# Altium schematic symbol library LimeMicroAltiumLib.SchLib: 659 symbols (part 11 of 22)
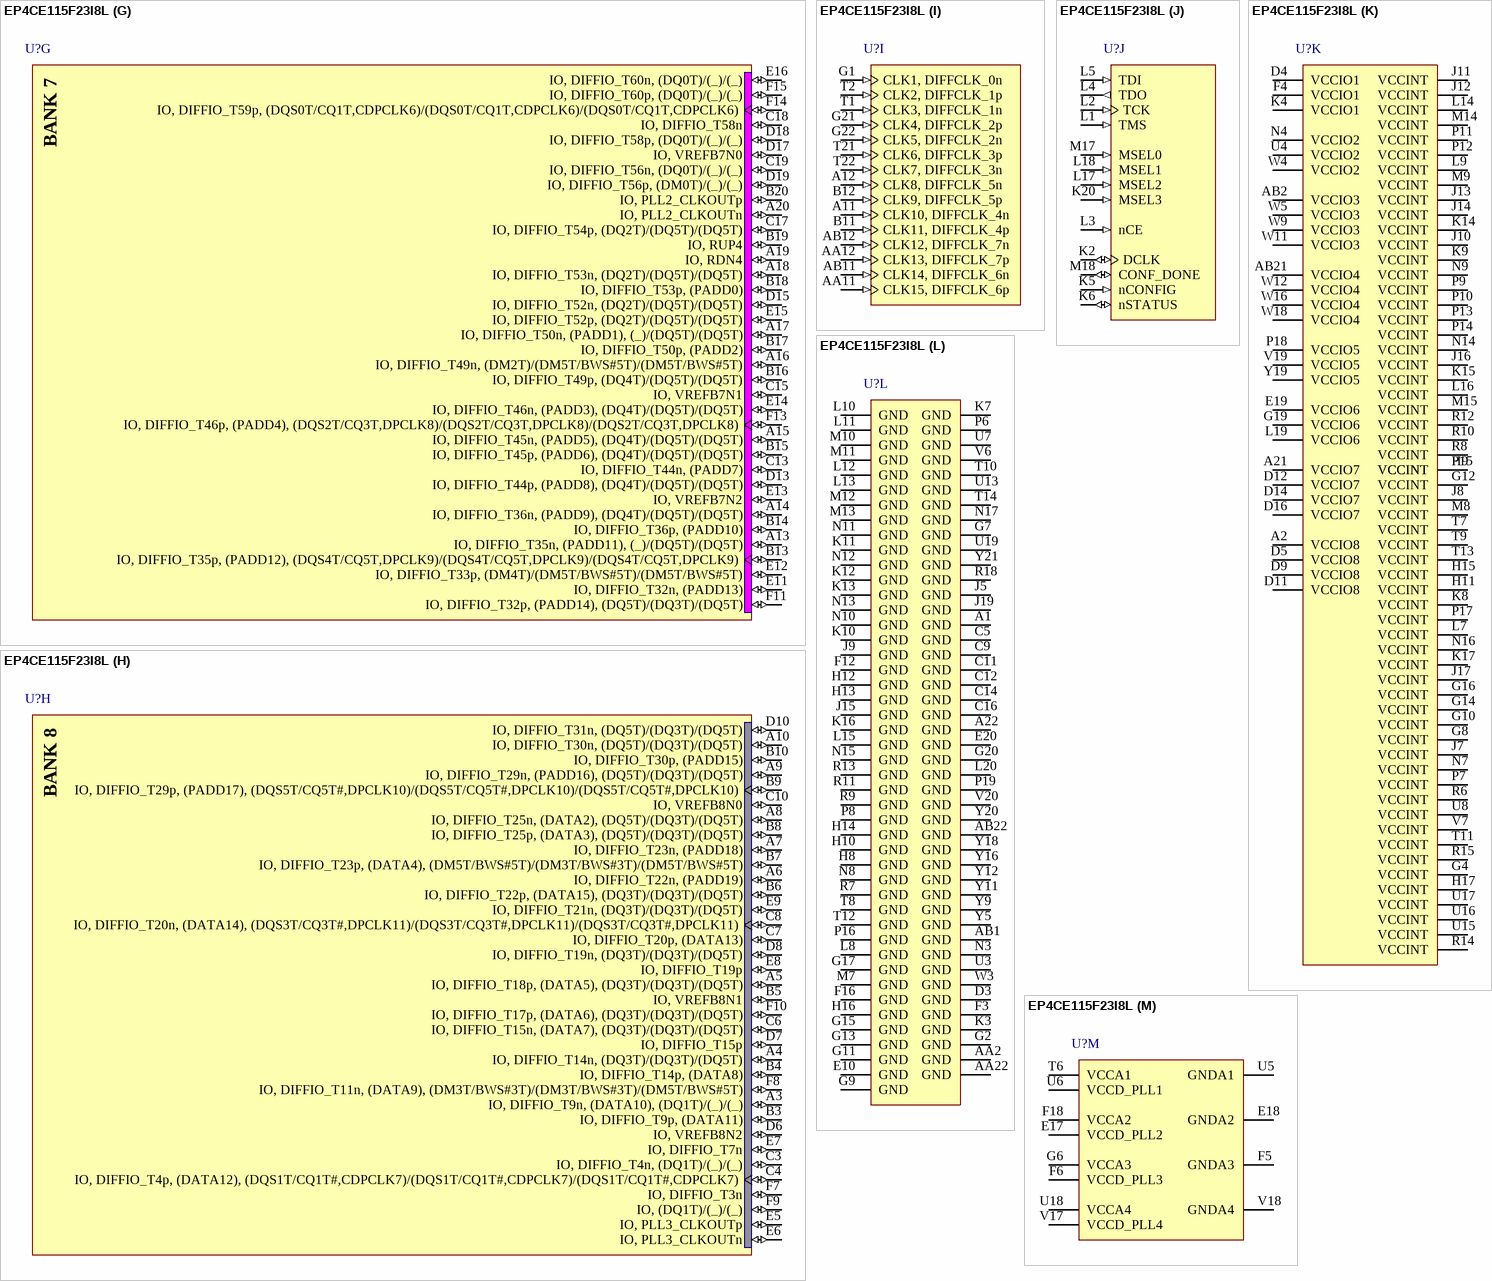
[diagram p88: symbol EP4CE115F23I8L]

## EP4CE115F23I8L
designator U?
Cyclone IV Family FPGA, 1V Core, 280 I/O Pins, 4 PLLs, 484-Pin FBGA, Speed Grade 8, Industrial Grade; Manufacturer: Altera; DatasheetVersion: ver1.6, Nov-2011; PackageVersion: ver1.0, Jun-2011; PackageReference: FBGA484_A-240; PackageDescription: 484-Pin FineLine Ball Grid Array (FBGA) - Wire Bond - A:2.40; Code_JEDEC: MS-034-AAJ-1; ComponentLink1Description: Manufacturer URL; ComponentLink1URL: http://www.altera.com/; ComponentLink2Description: Handbook; ComponentLink2URL: http://www.altera.com/literature/hb/cyclone-iv/cyclone4-handbook.pdf; ComponentLink3Description: Pinout; ComponentLink3URL: http://www.altera.com/literature/lit-dp.jsp?category=cyc%204&showspreadsheet=y; ComponentLink4Description: Package Specification; ComponentLink4URL: http://www.altera.com/devicepackaging/04R00247-02.pdf
footprint ALTR-FBGA484_A-200 (BGA, 484-Balls, Body 23x23mm, Pitch 1mm)
part A pins: B1 IO, DIFFIO_L2n, (DQ2L)/(DQ1L)/(DQ1L) (io), B2 IO, DIFFIO_L2p, (DQ2L)/(DQ1L)/(DQ1L) (io), C1 IO, DIFFIO_L4n, (DQ2L)/(DQ1L)/(DQ1L) (io), C2 IO, DIFFIO_L4p, (DQS2L/CQ3L,CDPCLK0)/(DQS2L/CQ3L,CDPCLK0)/(DQS2L/CQ3L,CDPCLK0) (io), D1 IO, DIFFIO_L5n, (DATA1,ASDO) (io), D2 IO, DIFFIO_L5p, (DQ2L)/(DQ1L)/(DQ1L) (io), E1 IO, DIFFIO_L8n, (_)/(DQ1L)/(DQ1L) (io), E2 IO, DIFFIO_L8p, (FLASH_nCE,nCSO) (io), E3 IO, DIFFIO_L3n, (DQ2L)/(DQ1L)/(DQ1L) (io), E4 IO, DIFFIO_L3p, (nRESET), (DQ2L)/(DQ1L)/(DQ1L) (io), F1 IO, DIFFIO_L9n, (DQ0L)/(DQ1L)/(DQ1L) (io), F2 IO, DIFFIO_L9p, (DM2L)/(DM1L/BWS#1L)/(DM1L/BWS#1L) (io), G3 IO, DIFFIO_L1n, (DQ2L)/(DQ1L)/(DQ1L) (io), G5 IO, VREFB1N0 (io), H1 IO, DIFFIO_L13n (io), H2 IO, DIFFIO_L13p (io), H3 IO, DIFFIO_L7n (io), H4 IO (io), H5 IO, VREFB1N1 (io), H6 IO, DIFFIO_L6p, (DQ2L)/(DQ1L)/(DQ1L) (io), H7 IO, DIFFIO_L1p (io), J1 IO, DIFFIO_L23n, (DQ0L)/(DQ1L)/(DQ1L) (io), J2 IO, DIFFIO_L23p (io), J3 IO, VREFB1N2 (io), J4 IO, DIFFIO_L12p, (DQS0L/CQ1L,DPCLK0)/(DQS0L/CQ1L,DPCLK0)/(DQS0L/CQ1L,DPCLK0) (io), J6 IO, DIFFIO_L6n (io), K1 IO, (DATA0) (io)
part B pins: AA1 IO, DIFFIO_L40n (io), L6 IO, DIFFIO_L25p, (DQ0L)/(DQ1L)/(DQ1L) (io), M1 IO, DIFFIO_L27n (io), M2 IO, DIFFIO_L27p, (DM0L)/(DM1L/BWS#1L)/(DM1L/BWS#1L) (io), M3 IO, DIFFIO_L28n, (DQ1L)/(DQ3L)/(DQ1L) (io), M4 IO, DIFFIO_L28p, (DQ1L)/(DQ3L)/(DQ1L) (io), M5 IO, VREFB2N0 (io), M6 IO, DIFFIO_L25n, (_)/(DQ1L)/(DQ1L) (io), N1 IO, DIFFIO_L29n (io), N2 IO, DIFFIO_L29p, (DQ1L)/(DQ3L)/(DQ1L) (io), N5 IO, DIFFIO_L32n, (DQ1L)/(DQ3L)/(DQ1L) (io), N6 IO, DIFFIO_L36n (io), P1 IO, DIFFIO_L30n, (DQ1L)/(DQ3L)/(DQ1L) (io), P2 IO, DIFFIO_L30p (io), P3 IO, DIFFIO_L33n (io), P4 IO, DIFFIO_L33p, (DQS1L/CQ1L#,DPCLK1)/(DQS1L/CQ1L#,DPCLK1)/(DQS1L/CQ1L#,DPCLK1) (io), P5 IO, DIFFIO_L36p, (DQ3L)/(DQ3L)/(DQ1L) (io), R1 IO, DIFFIO_L31n (io), R2 IO, DIFFIO_L31p, (DQ1L)/(DQ3L)/(DQ1L) (io), R3 IO, DIFFIO_L37n, (DQ3L)/(DQ3L)/(DQ1L) (io), R4 IO, DIFFIO_L37p, (DQ3L)/(DQ3L)/(DQ1L) (io), R5 IO, VREFB2N2 (io), T3 IO, VREFB2N1 (io), T4 IO, DIFFIO_L48p, (DQS3L/CQ3L#,CDPCLK1)/(DQS3L/CQ3L#,CDPCLK1)/(DQS3L/CQ3L#,CDPCLK1) (io), T5 IO, DIFFIO_L48n, (DM3L/BWS#3L)/(DM3L/BWS#3L)/(DM1L/BWS#1L) (io), U1 IO, DIFFIO_L34n, (DM1L/BWS#1L)/(DM3L/BWS#3L)/(DM1L/BWS#1L) (io), U2 IO, DIFFIO_L34p, (DQ1L)/(DQ3L)/(DQ1L) (io), V1 IO, DIFFIO_L35n (io), V2 IO, DIFFIO_L35p, (DQ3L)/(DQ3L)/(DQ1L) (io), V3 IO, RDN1 (io), V4 IO, RUP1 (io), W1 IO, DIFFIO_L38n (io), W2 IO, DIFFIO_L38p, (DQ3L)/(DQ3L)/(DQ1L) (io), Y1 IO, DIFFIO_L39n (io), Y2 IO, DIFFIO_L39p, (DQ3L)/(DQ3L)/(DQ1L) (io)
part C pins: AA3 IO, PLL_1CLKOUTp (io), AA4 IO, (DQ1B)/(_)/(_) (io), AA5 IO, DIFFIO_B5p (io), AA6 IO, DIFFIO_B7n, (DQ1B)/(_)/(_) (io), AA7 IO, DIFFIO_B14p (io), AA8 IO, DIFFIO_B17p, (DQ5B)/(DQ3B)/(DQ5B) (io), AA9 IO, DIFFIO_B18p, (DQ5B)/(DQ3B)/(DQ5B) (io), AA10 IO, DIFFIO_B24p (io), AB3 IO, PLL_1CLKOUTn (io), AB4 IO, VREFB3N2 (io), AB5 IO, DIFFIO_B8n (io), AB6 IO, DIFFIO_B8p, (DM3B/BWS#3B)/(DM3B/BWS#3B)/(DM5B/BWS#5B) (io), AB7 IO, DIFFIO_B14n, (DM5B/BWS#5B)/(DM3B/BWS#3B)/(DM5B/BWS#5B) (io), AB8 IO, DIFFIO_B17n (io), AB9 IO, DIFFIO_B18n, (DQS5B/CQ5B#,DPCLK3)/(DQS5B/CQ5B#,DPCLK3)/(DQS5B/CQ5B#,DPCLK3) (io), AB10 IO, DIFFIO_B24n (io), U9 IO, DIFFIO_B12n, (DQ3B)/(DQ3B)/(DQ5B) (io), U10 IO, DIFFIO_B15n, (DQ5B)/(DQ3B)/(DQ5B) (io), U11 IO, VREFB3N0 (io), V5 IO, DIFFIO_B1n, (DM1B)/(_)/(_) (io), V8 IO, DIFFIO_B13p (io), V9 IO, VREFB3N1 (io), V10 IO, DIFFIO_B15p, (DQS3B/CQ3B#,DPCLK2)/(DQS3B/CQ3B#,DPCLK2)/(DQS3B/CQ3B#,DPCLK2) (io), V11 IO (io), W6 IO, DIFFIO_B4p, (DQ1B)/(_)/(_) (io), W7 IO, DIFFIO_B9p, (DQ3B)/(DQ3B)/(DQ5B) (io), W8 IO, DIFFIO_B13n, (DQ3B)/(DQ3B)/(DQ5B) (io), W10 IO, DIFFIO_B23p (io), Y3 IO, DIFFIO_B3n, (DQ1B)/(_)/(_) (io), Y4 IO, DIFFIO_B3p (io), Y6 IO, (DQS1B/CQ1B#,CDPCLK2)/(DQS1B/CQ1B#,CDPCLK2)/(DQS1B/CQ1B#,CDPCLK2) (io), Y7 IO, DIFFIO_B9n, (DQ3B)/(DQ3B)/(DQ5B) (io), Y8 IO, (DQ5B)/(DQ3B)/(DQ5B) (io), Y10 IO, DIFFIO_B23n (io)
part D pins: AA13 IO, DIFFIO_B32p, (_)/(DQ5B)/(DQ5B) (io), AA14 IO, DIFFIO_B35p (io), AA15 IO, DIFFIO_B37p, (DQ4B)/(DQ5B)/(DQ5B) (io), AA16 IO, DIFFIO_B40p, (DQ2B)/(DQ5B)/(DQ5B) (io), AA17 IO, DIFFIO_B47p, (DQ0B)/(_)/(_) (io), AA18 IO, VREFB4N1 (io), AA19 IO, RUP2 (io), AA20 IO, DIFFIO_B49p (io), AB13 IO, DIFFIO_B32n, (DQ4B)/(DQ5B)/(DQ5B) (io), AB14 IO, DIFFIO_B35n, (DQ4B)/(DQ5B)/(DQ5B) (io), AB15 IO, DIFFIO_B37n, (DQ4B)/(DQ5B)/(DQ5B) (io), AB16 IO, DIFFIO_B40n, (DQ2B)/(DQ5B)/(DQ5B) (io), AB17 IO, DIFFIO_B47n (io), AB18 IO, (DQ0B)/(_)/(_) (io), AB19 IO, RDN2 (io), AB20 IO, DIFFIO_B49n, (DQ0B)/(_)/(_) (io), R16 IO, PLL4_CLKOUTn (io), T15 IO, DIFFIO_B46n, (DQ0B)/(_)/(_) (io), T16 IO, PLL4_CLKOUTp (io), U12 IO, DIFFIO_B38p (io), U14 IO, DIFFIO_B44p, (DQ2B)/(DQ5B)/(DQ5B) (io), V12 IO, VREFB4N2 (io), V13 IO, DIFFIO_B41p, (DQS2B/CQ3B,DPCLK5)/(DQS2B/CQ3B,DPCLK5)/(DQS2B/CQ3B,DPCLK5) (io), V14 IO, DIFFIO_B43p (io), V15 IO, DIFFIO_B44n (io), V16 IO, VREFB4N0 (io), W13 IO, DIFFIO_B36p, (DQ4B)/(DQ5B)/(DQ5B) (io), W14 IO, DIFFIO_B41n (io), W15 IO, DIFFIO_B45p, (DQ2B)/(DQ5B)/(DQ5B) (io), W17 IO, DIFFIO_B48p, (DQ0B)/(_)/(_) (io), Y13 IO, DIFFIO_B36n, (DQS4B/CQ5B,DPCLK4)/(DQS4B/CQ5B,DPCLK4)/(DQS4B/CQ5B,DPCLK4) (io), Y14 IO, DIFFIO_B39p (io), Y15 IO, DIFFIO_B39n, (DQ2B)/(DQ5B)/(DQ5B) (io), Y17 IO, DIFFIO_B48n, (DQS0B/CQ1B,CDPCLK3)/(DQS0B/CQ1B,CDPCLK3)/(DQS0B/CQ1B,CDPCLK3) (io)
part E pins: AA21 IO, DIFFIO_R51p (io), M16 IO, DIFFIO_R48p (io), M19 IO, DIFFIO_R27p, (_)/(DQ1R)/(DQ1R) (io), M20 IO, DIFFIO_R27n, (DM0R)/(DM1R/BWS#1R)/(DM1R/BWS#1R) (io), M21 IO, DIFFIO_R28p (io), M22 IO, DIFFIO_R28n, (DQ1R)/(DQ3R)/(DQ1R) (io), N18 IO, DIFFIO_R30p, (DQS1R/CQ1R#,DPCLK6)/(DQS1R/CQ1R#,DPCLK6)/(DQS1R/CQ1R#,DPCLK6) (io), N19 IO, VREFB5N0 (io), N20 IO, DIFFIO_R33n (io), N21 IO, DIFFIO_R29p, (DEV_CLRn) (io), N22 IO, DIFFIO_R29n, (DEV_OE) (io), P20 IO, VREFB5N1 (io), P21 IO, DIFFIO_R36p (io), P22 IO, DIFFIO_R36n (io), R17 IO, DIFFIO_R49p (io), R19 IO, DIFFIO_R40p (io), R20 IO, DIFFIO_R42n, (DM1R/BWS#1R)/(DM3R/BWS#3R)/(DM1R/BWS#1R) (io), R21 IO, DIFFIO_R38p (io), R22 IO, DIFFIO_R38n, (DQ1R)/(DQ3R)/(DQ1R) (io), T17 IO, RUP3 (io), T18 IO, RDN3 (io), T19 IO, DIFFIO_R45p, (DQ3R)/(DQ3R)/(DQ1R) (io), T20 IO, DIFFIO_R45n, (DQ3R)/(DQ3R)/(DQ1R) (io), U20 IO, DIFFIO_R48n, (DQ3R)/(DQ3R)/(DQ1R) (io), U21 IO, DIFFIO_R41p (io), U22 IO, DIFFIO_R41n, (DQ1R)/(DQ3R)/(DQ1R) (io), V21 IO, DIFFIO_R43p (io), V22 IO, DIFFIO_R43n, (DQ3R)/(DQ3R)/(DQ1R) (io), W19 IO, VREFB5N2 (io), W20 IO, DIFFIO_R50n, (DQS3R/CQ3R#,CDPCLK4)/(DQS3R/CQ3R#,CDPCLK4)/(DQS3R/CQ3R#,CDPCLK4) (io), W21 IO, DIFFIO_R46p (io), W22 IO, DIFFIO_R46n, (DQ3R)/(DQ3R)/(DQ1R) (io), Y22 IO, DIFFIO_R49n, (DQ3R)/(DQ3R)/(DQ1R) (io)
part F pins: B21 IO, DIFFIO_R9p, (PADD21), (DQ2R)/(DQ1R)/(DQ1R) (io), B22 IO, DIFFIO_R9n, (PADD22) (io), C20 IO, DIFFIO_R8n, (PADD20), (DQS2R/CQ3R,CDPCLK5)/(DQS2R/CQ3R,CDPCLK5)/(DQS2R/CQ3R,CDPCLK5) (io), C21 IO, DIFFIO_R10p, (DQ2R)/(DQ1R)/(DQ1R) (io), C22 IO, DIFFIO_R10n (io), D20 IO, VREFB6N0 (io), D21 IO, DIFFIO_R14p (io), D22 IO, DIFFIO_R14n, (DQ2R)/(DQ1R)/(DQ1R) (io), E21 IO, DIFFIO_R15p, (nOE), (DQ2R)/(DQ1R)/(DQ1R) (io), E22 IO, DIFFIO_R15n, (nWE), (DQ2R)/(DQ1R)/(DQ1R) (io), F17 IO, DIFFIO_R2n (io), F19 IO, DIFFIO_R13p (io), F20 IO, DIFFIO_R13n, (nAVD), (DQ2R)/(DQ1R)/(DQ1R) (io), F21 IO, DIFFIO_R18p (io), F22 IO, DIFFIO_R18n, (DQ0R)/(DQ1R)/(DQ1R) (io), G18 IO, DIFFIO_R12n, (PADD23), (DQ2R)/(DQ1R)/(DQ1R) (io), H18 IO, VREFB6N1 (io), H19 IO, DIFFIO_R16p, (_)/(DQ1R)/(DQ1R) (io), H20 IO, DIFFIO_R16n (io), H21 IO, DIFFIO_R21p, (DQ0R)/(DQ1R)/(DQ1R) (io), H22 IO, DIFFIO_R21n, (DQ0R)/(DQ1R)/(DQ1R) (io), J18 IO, DIFFIO_R20p (io), J20 IO, DIFFIO_R17n, (DQ0R)/(DQ1R)/(DQ1R) (io), J21 IO, DIFFIO_R22p (io), J22 IO, DIFFIO_R22n, (DQS0R/CQ1R,DPCLK7)/(DQS0R/CQ1R,DPCLK7)/(DQS0R/CQ1R,DPCLK7) (io), K18 IO, DIFFIO_R20n, (DQ0R)/(DQ1R)/(DQ1R) (io), K19 IO, VREFB6N2 (io), K21 IO, DIFFIO_R23p, (CLKUSR) (io), K22 IO, DIFFIO_R23n, (nCEO) (io), L21 IO, DIFFIO_R24p, (CRC_ERROR) (io), L22 IO, DIFFIO_R24n, (INIT_DONE) (io)
part G pins: A13 IO, DIFFIO_T35n, (PADD11), (_)/(DQ5T)/(DQ5T) (io), A14 IO, DIFFIO_T36n, (PADD9), (DQ4T)/(DQ5T)/(DQ5T) (io), A15 IO, DIFFIO_T45n, (PADD5), (DQ4T)/(DQ5T)/(DQ5T) (io), A16 IO, DIFFIO_T49n, (DM2T)/(DM5T/BWS#5T)/(DM5T/BWS#5T) (io), A17 IO, DIFFIO_T50n, (PADD1), (_)/(DQ5T)/(DQ5T) (io), A18 IO, DIFFIO_T53n, (DQ2T)/(DQ5T)/(DQ5T) (io), A19 IO, RDN4 (io), A20 IO, PLL2_CLKOUTn (io), B13 IO, DIFFIO_T35p, (PADD12), (DQS4T/CQ5T,DPCLK9)/(DQS4T/CQ5T,DPCLK9)/(DQS4T/CQ5T,DPCLK9) (io), B14 IO, DIFFIO_T36p, (PADD10) (io), B15 IO, DIFFIO_T45p, (PADD6), (DQ4T)/(DQ5T)/(DQ5T) (io), B16 IO, DIFFIO_T49p, (DQ4T)/(DQ5T)/(DQ5T) (io), B17 IO, DIFFIO_T50p, (PADD2) (io), B18 IO, DIFFIO_T53p, (PADD0) (io), B19 IO, RUP4 (io), B20 IO, PLL2_CLKOUTp (io), C13 IO, DIFFIO_T44n, (PADD7) (io), C15 IO, VREFB7N1 (io), C17 IO, DIFFIO_T54p, (DQ2T)/(DQ5T)/(DQ5T) (io), C18 IO, DIFFIO_T58n (io), C19 IO, DIFFIO_T56n, (DQ0T)/(_)/(_) (io), D13 IO, DIFFIO_T44p, (PADD8), (DQ4T)/(DQ5T)/(DQ5T) (io), D15 IO, DIFFIO_T52n, (DQ2T)/(DQ5T)/(DQ5T) (io), D17 IO, VREFB7N0 (io), D18 IO, DIFFIO_T58p, (DQ0T)/(_)/(_) (io), D19 IO, DIFFIO_T56p, (DM0T)/(_)/(_) (io), E11 IO, DIFFIO_T32n, (PADD13) (io), E12 IO, DIFFIO_T33p, (DM4T)/(DM5T/BWS#5T)/(DM5T/BWS#5T) (io), E13 IO, VREFB7N2 (io), E14 IO, DIFFIO_T46n, (PADD3), (DQ4T)/(DQ5T)/(DQ5T) (io), E15 IO, DIFFIO_T52p, (DQ2T)/(DQ5T)/(DQ5T) (io), E16 IO, DIFFIO_T60n, (DQ0T)/(_)/(_) (io), F11 IO, DIFFIO_T32p, (PADD14), (DQ5T)/(DQ3T)/(DQ5T) (io), F13 IO, DIFFIO_T46p, (PADD4), (DQS2T/CQ3T,DPCLK8)/(DQS2T/CQ3T,DPCLK8)/(DQS2T/CQ3T,DPCLK8) (io), F14 IO, DIFFIO_T59p, (DQS0T/CQ1T,CDPCLK6)/(DQS0T/CQ1T,CDPCLK6)/(DQS0T/CQ1T,CDPCLK6) (io), F15 IO, DIFFIO_T60p, (DQ0T)/(_)/(_) (io)
part H pins: A3 IO, DIFFIO_T9n, (DATA10), (DQ1T)/(_)/(_) (io), A4 IO, DIFFIO_T14n, (DQ3T)/(DQ3T)/(DQ5T) (io), A5 IO, DIFFIO_T18p, (DATA5), (DQ3T)/(DQ3T)/(DQ5T) (io), A6 IO, DIFFIO_T22n, (PADD19) (io), A7 IO, DIFFIO_T23n, (PADD18) (io), A8 IO, DIFFIO_T25n, (DATA2), (DQ5T)/(DQ3T)/(DQ5T) (io), A9 IO, DIFFIO_T29n, (PADD16), (DQ5T)/(DQ3T)/(DQ5T) (io), A10 IO, DIFFIO_T30n, (DQ5T)/(DQ3T)/(DQ5T) (io), B3 IO, DIFFIO_T9p, (DATA11) (io), B4 IO, DIFFIO_T14p, (DATA8) (io), B5 IO, VREFB8N1 (io), B6 IO, DIFFIO_T22p, (DATA15), (DQ3T)/(DQ3T)/(DQ5T) (io), B7 IO, DIFFIO_T23p, (DATA4), (DM5T/BWS#5T)/(DM3T/BWS#3T)/(DM5T/BWS#5T) (io), B8 IO, DIFFIO_T25p, (DATA3), (DQ5T)/(DQ3T)/(DQ5T) (io), B9 IO, DIFFIO_T29p, (PADD17), (DQS5T/CQ5T#,DPCLK10)/(DQS5T/CQ5T#,DPCLK10)/(DQS5T/CQ5T#,DPCLK10) (io), B10 IO, DIFFIO_T30p, (PADD15) (io), C3 IO, DIFFIO_T4n, (DQ1T)/(_)/(_) (io), C4 IO, DIFFIO_T4p, (DATA12), (DQS1T/CQ1T#,CDPCLK7)/(DQS1T/CQ1T#,CDPCLK7)/(DQS1T/CQ1T#,CDPCLK7) (io), C6 IO, DIFFIO_T15n, (DATA7), (DQ3T)/(DQ3T)/(DQ5T) (io), C7 IO, DIFFIO_T20p, (DATA13) (io), C8 IO, DIFFIO_T20n, (DATA14), (DQS3T/CQ3T#,DPCLK11)/(DQS3T/CQ3T#,DPCLK11)/(DQS3T/CQ3T#,DPCLK11) (io), C10 IO, VREFB8N0 (io), D6 IO, VREFB8N2 (io), D7 IO, DIFFIO_T15p (io), D8 IO, DIFFIO_T19n, (DQ3T)/(DQ3T)/(DQ5T) (io), D10 IO, DIFFIO_T31n, (DQ5T)/(DQ3T)/(DQ5T) (io), E5 IO, PLL3_CLKOUTp (io), E6 IO, PLL3_CLKOUTn (io), E7 IO, DIFFIO_T7n (io), E8 IO, DIFFIO_T19p (io), E9 IO, DIFFIO_T21n, (DQ3T)/(DQ3T)/(DQ5T) (io), F7 IO, DIFFIO_T3n (io), F8 IO, DIFFIO_T11n, (DATA9), (DM3T/BWS#3T)/(DM3T/BWS#3T)/(DM5T/BWS#5T) (io), F9 IO, (DQ1T)/(_)/(_) (io), F10 IO, DIFFIO_T17p, (DATA6), (DQ3T)/(DQ3T)/(DQ5T) (io)
part I pins: A11 CLK10, DIFFCLK_4n (in), A12 CLK8, DIFFCLK_5n (in), AA11 CLK15, DIFFCLK_6p (in), AA12 CLK13, DIFFCLK_7p (in), AB11 CLK14, DIFFCLK_6n (in), AB12 CLK12, DIFFCLK_7n (in), B11 CLK11, DIFFCLK_4p (in), B12 CLK9, DIFFCLK_5p (in), G1 CLK1, DIFFCLK_0n (in), G21 CLK4, DIFFCLK_2p (in), G22 CLK5, DIFFCLK_2n (in), T1 CLK3, DIFFCLK_1n (in), T2 CLK2, DIFFCLK_1p (in), T21 CLK6, DIFFCLK_3p (in), T22 CLK7, DIFFCLK_3n (in)
part J pins: K2 DCLK (io), K5 nCONFIG (in), K6 nSTATUS (io), K20 MSEL3 (in), L1 TMS (in), L2 TCK (in), L3 nCE (in), L4 TDO (out), L5 TDI (in), L17 MSEL2 (in), L18 MSEL1 (in), M17 MSEL0 (in), M18 CONF_DONE (io)
part K pins: A2 VCCIO8 (power), A21 VCCIO7 (power), AB2 VCCIO3 (power), AB21 VCCIO4 (power), D4 VCCIO1 (power), D5 VCCIO8 (power), D9 VCCIO8 (power), D11 VCCIO8 (power), D12 VCCIO7 (power), D14 VCCIO7 (power), D16 VCCIO7 (power), E19 VCCIO6 (power), F4 VCCIO1 (power), G4 VCCINT (power), G8 VCCINT (power), G10 VCCINT (power), G12 VCCINT (power), G14 VCCINT (power), G16 VCCINT (power), G19 VCCIO6 (power), H9 VCCINT (power), H11 VCCINT (power), H15 VCCINT (power), H17 VCCINT (power), J7 VCCINT (power), J8 VCCINT (power), J10 VCCINT (power), J11 VCCINT (power), J12 VCCINT (power), J13 VCCINT (power), J14 VCCINT (power), J16 VCCINT (power), J17 VCCINT (power), K4 VCCIO1 (power), K8 VCCINT (power), K9 VCCINT (power), K14 VCCINT (power), K15 VCCINT (power), K17 VCCINT (power), L7 VCCINT (power), L9 VCCINT (power), L14 VCCINT (power), L16 VCCINT (power), L19 VCCIO6 (power), M8 VCCINT (power), M9 VCCINT (power), M14 VCCINT (power), M15 VCCINT (power), N4 VCCIO2 (power), N7 VCCINT (power), N9 VCCINT (power), N14 VCCINT (power), N16 VCCINT (power), P7 VCCINT (power), P9 VCCINT (power), P10 VCCINT (power), P11 VCCINT (power), P12 VCCINT (power), P13 VCCINT (power), P14 VCCINT (power), P15 VCCINT (power), P17 VCCINT (power), P18 VCCIO5 (power), R6 VCCINT (power), R8 VCCINT (power), R10 VCCINT (power), R12 VCCINT (power), R14 VCCINT (power), R15 VCCINT (power), T7 VCCINT (power), T9 VCCINT (power), T11 VCCINT (power), T13 VCCINT (power), U4 VCCIO2 (power), U8 VCCINT (power), U15 VCCINT (power), U16 VCCINT (power), U17 VCCINT (power), V7 VCCINT (power), V19 VCCIO5 (power), W4 VCCIO2 (power), W5 VCCIO3 (power), W9 VCCIO3 (power), W11 VCCIO3 (power), W12 VCCIO4 (power), W16 VCCIO4 (power), W18 VCCIO4 (power), Y19 VCCIO5 (power)
part L pins: A1 GND (power), A22 GND (power), AA2 GND (power), AA22 GND (power), AB1 GND (power), AB22 GND (power), C5 GND (power), C9 GND (power), C11 GND (power), C12 GND (power), C14 GND (power), C16 GND (power), D3 GND (power), E10 GND (power), E20 GND (power), F3 GND (power), F12 GND (power), F16 GND (power), G2 GND (power), G7 GND (power), G9 GND (power), G11 GND (power), G13 GND (power), G15 GND (power), G17 GND (power), G20 GND (power), H8 GND (power), H10 GND (power), H12 GND (power), H13 GND (power), H14 GND (power), H16 GND (power), J5 GND (power), J9 GND (power), J15 GND (power), J19 GND (power), K3 GND (power), K7 GND (power), K10 GND (power), K11 GND (power), K12 GND (power), K13 GND (power), K16 GND (power), L8 GND (power), L10 GND (power), L11 GND (power), L12 GND (power), L13 GND (power), L15 GND (power), L20 GND (power), M7 GND (power), M10 GND (power), M11 GND (power), M12 GND (power), M13 GND (power), N3 GND (power), N8 GND (power), N10 GND (power), N11 GND (power), N12 GND (power), N13 GND (power), N15 GND (power), N17 GND (power), P6 GND (power), P8 GND (power), P16 GND (power), P19 GND (power), R7 GND (power), R9 GND (power), R11 GND (power), R13 GND (power), R18 GND (power), T8 GND (power), T10 GND (power), T12 GND (power), T14 GND (power), U3 GND (power), U7 GND (power), U13 GND (power), U19 GND (power), V6 GND (power), V20 GND (power), W3 GND (power), Y5 GND (power), Y9 GND (power), Y11 GND (power), Y12 GND (power), Y16 GND (power), Y18 GND (power), Y20 GND (power), Y21 GND (power)
part M pins: E17 VCCD_PLL2 (power), E18 GNDA2 (power), F5 GNDA3 (power), F6 VCCD_PLL3 (power), F18 VCCA2 (power), G6 VCCA3 (power), T6 VCCA1 (power), U5 GNDA1 (power), U6 VCCD_PLL1 (power), U18 VCCA4 (power), V17 VCCD_PLL4 (power), V18 GNDA4 (power)
part A text: BANK 1
part B text: BANK 2
part C text: BANK 3
part D text: BANK 4
part E text: BANK 5
part F text: BANK 6
part G text: BANK 7
part H text: BANK 8

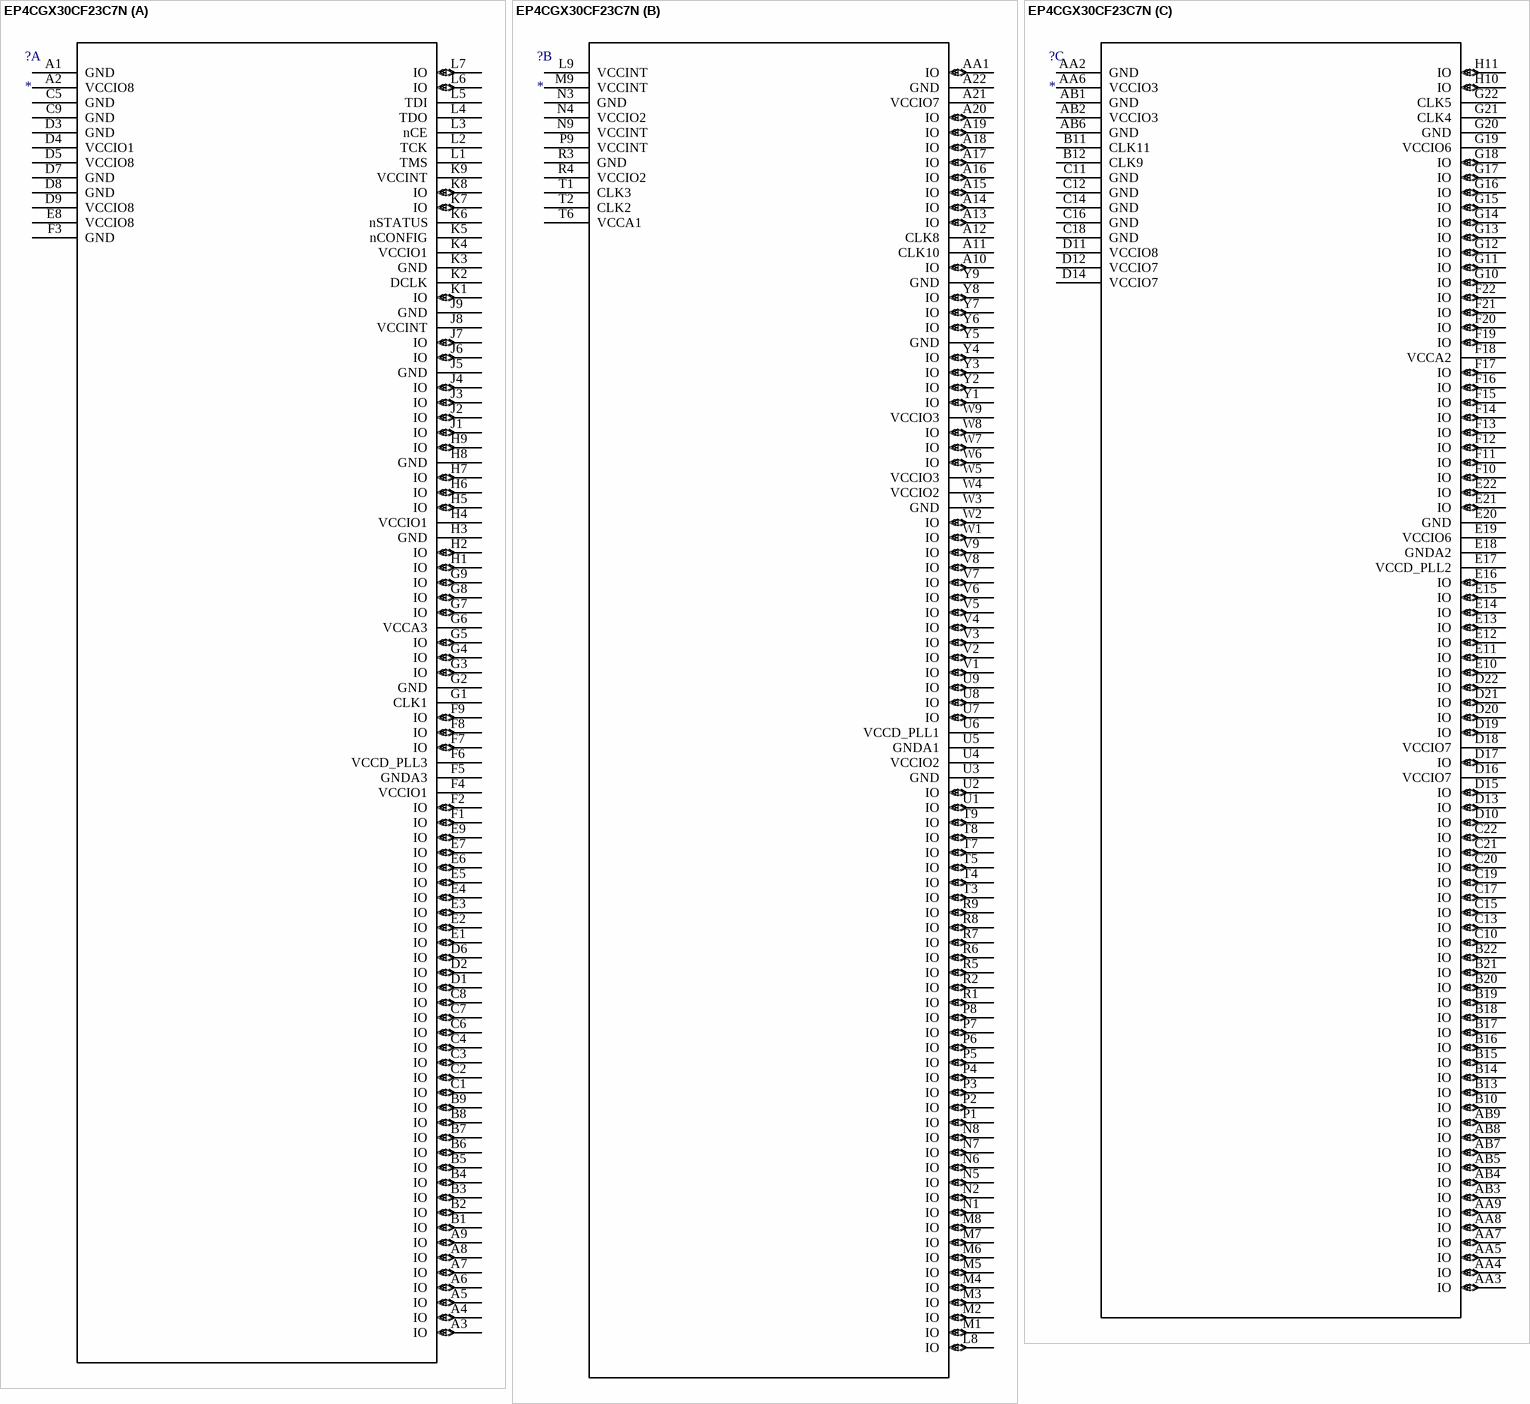
[diagram p44: symbol EP4CGX30CF23C7N]

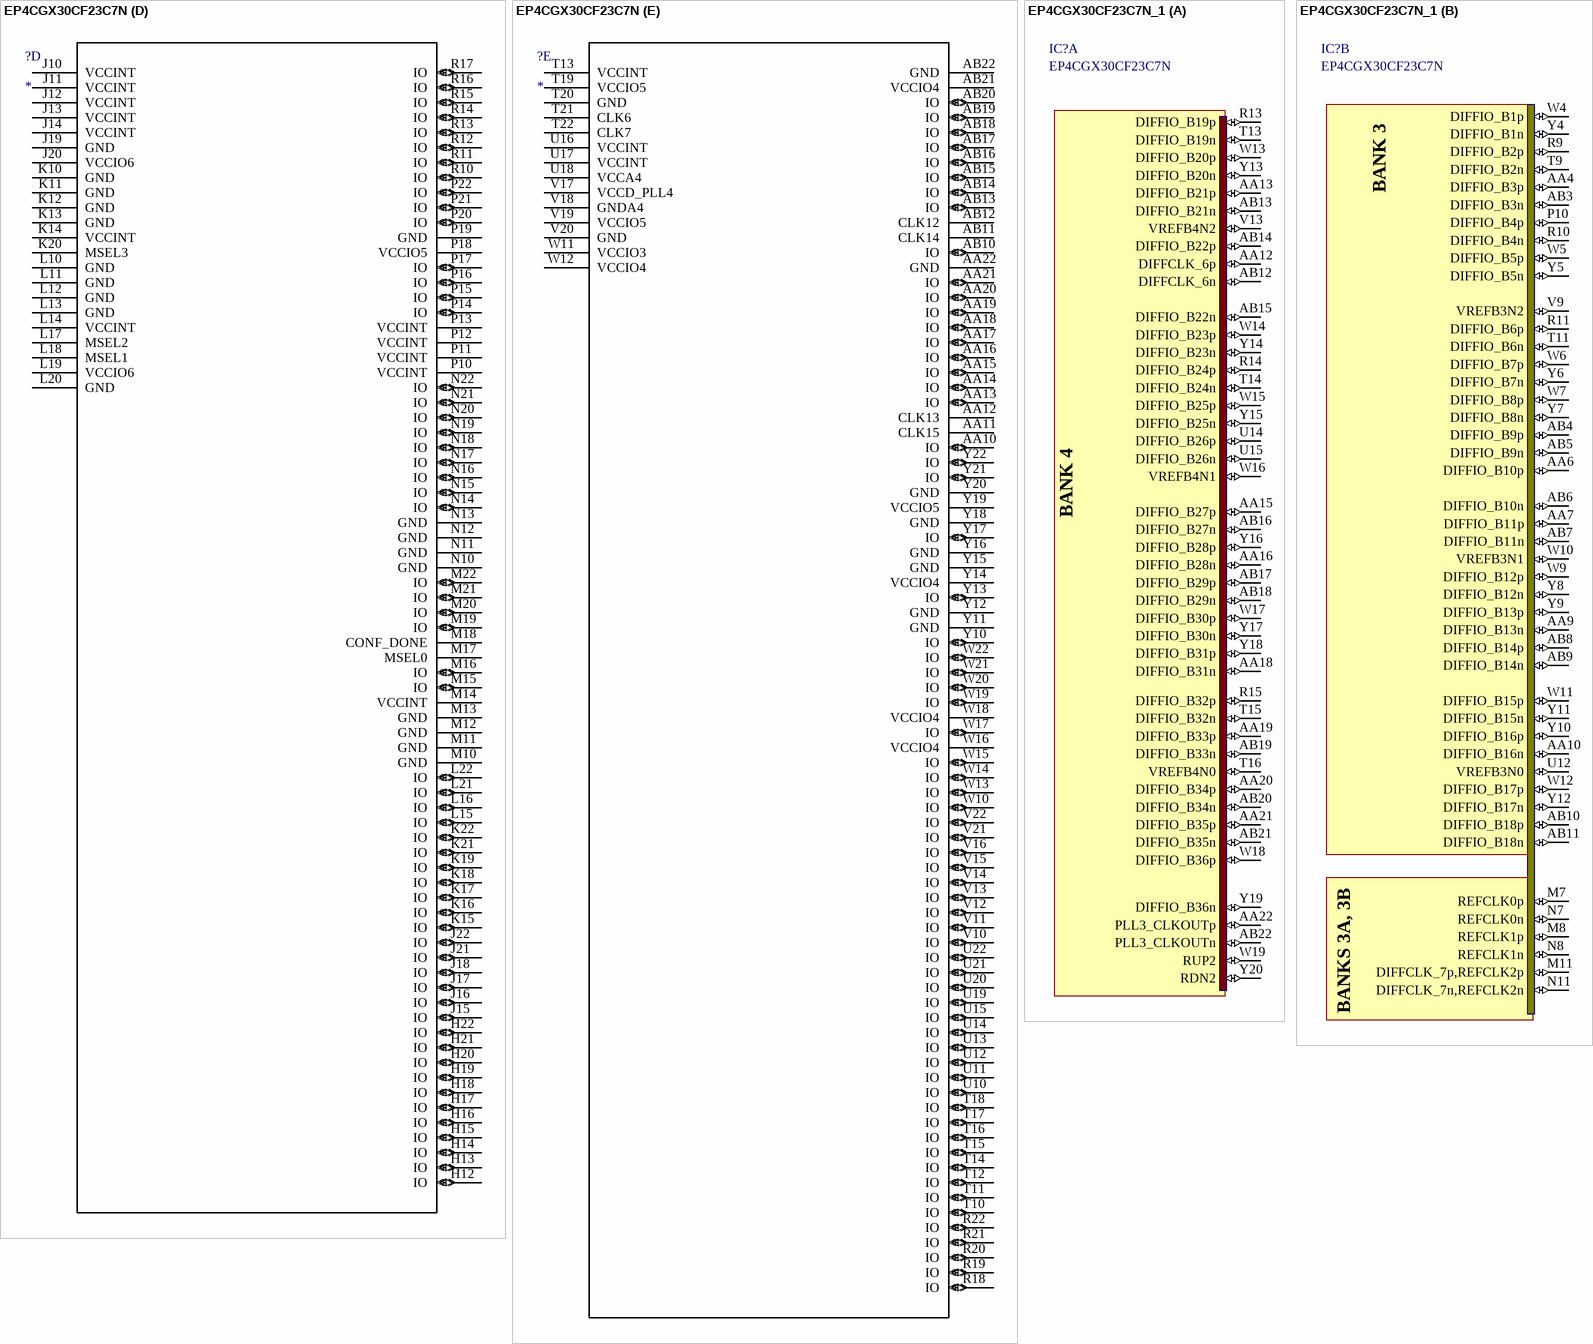
[diagram p45: symbols EP4CGX30CF23C7N to EP4CGX30CF23C7N_1]

## EP4CGX30CF23C7N
designator ?
Imported; Manufacturer_Part_Number: EP4CGX30CF23C7N; Vendor: Altera; 3D_Library_Name: Altera_Complete_1-10-13; C: Copyright (C) 2015 Accelerated Designs. All rights reserved; Copyright: Copyright (C) 2015 Accelerated Designs. All rights reserved; RefDes: RefDes; Type: DEV; Value: Value
footprint 484-FBGA
part A pins: A1 GND (power), A2 VCCIO8 (power), A3 IO (io), A4 IO (io), A5 IO (io), A6 IO (io), A7 IO (io), A8 IO (io), A9 IO (io), B1 IO (io), B2 IO (io), B3 IO (io), B4 IO (io), B5 IO (io), B6 IO (io), B7 IO (io), B8 IO (io), B9 IO (io), C1 IO (io), C2 IO (io), C3 IO (io), C4 IO (io), C5 GND (power), C6 IO (io), C7 IO (io), C8 IO (io), C9 GND (power), D1 IO (io), D2 IO (io), D3 GND (power), D4 VCCIO1 (power), D5 VCCIO8 (power), D6 IO (io), D7 GND (power), D8 GND (power), D9 VCCIO8 (power), E1 IO (io), E2 IO (io), E3 IO (io), E4 IO (io), E5 IO (io), E6 IO (io), E7 IO (io), E8 VCCIO8 (power), E9 IO (io), F1 IO (io), F2 IO (io), F3 GND (power), F4 VCCIO1 (power), F5 GNDA3 (power), F6 VCCD_PLL3 (power), F7 IO (io), F8 IO (io), F9 IO (io), G1 CLK1, G2 GND (power), G3 IO (io), G4 IO (io), G5 IO (io), G6 VCCA3 (power), G7 IO (io), G8 IO (io), G9 IO (io), H1 IO (io), H2 IO (io), H3 GND (power), H4 VCCIO1 (power), H5 IO (io), H6 IO (io), H7 IO (io), H8 GND (power), H9 IO (io), J1 IO (io), J2 IO (io), J3 IO (io), J4 IO (io), J5 GND (power), J6 IO (io), J7 IO (io), J8 VCCINT (power), J9 GND (power), K1 IO (io), K2 DCLK, K3 GND, K4 VCCIO1, K5 nCONFIG, K6 nSTATUS, K7 IO (io), K8 IO (io), K9 VCCINT (power), L1 TMS, L2 TCK, L3 nCE, L4 TDO, L5 TDI, L6 IO (io), L7 IO (io)
part B pins: A10 IO (io), A11 CLK10, A12 CLK8, A13 IO (io), A14 IO (io), A15 IO (io), A16 IO (io), A17 IO (io), A18 IO (io), A19 IO (io), A20 IO (io), A21 VCCIO7 (power), A22 GND (power), AA1 IO (io), L8 IO (io), L9 VCCINT (power), M1 IO (io), M2 IO (io), M3 IO (io), M4 IO (io), M5 IO (io), M6 IO (io), M7 IO (io), M8 IO (io), M9 VCCINT (power), N1 IO (io), N2 IO (io), N3 GND (power), N4 VCCIO2 (power), N5 IO (io), N6 IO (io), N7 IO (io), N8 IO (io), N9 VCCINT (power), P1 IO (io), P2 IO (io), P3 IO (io), P4 IO (io), P5 IO (io), P6 IO (io), P7 IO (io), P8 IO (io), P9 VCCINT (power), R1 IO (io), R2 IO (io), R3 GND (power), R4 VCCIO2 (power), R5 IO (io), R6 IO (io), R7 IO (io), R8 IO (io), R9 IO (io), T1 CLK3, T2 CLK2, T3 IO (io), T4 IO (io), T5 IO (io), T6 VCCA1 (power), T7 IO (io), T8 IO (io), T9 IO (io), U1 IO (io), U2 IO (io), U3 GND (power), U4 VCCIO2 (power), U5 GNDA1 (power), U6 VCCD_PLL1 (power), U7 IO (io), U8 IO (io), U9 IO (io), V1 IO (io), V2 IO (io), V3 IO (io), V4 IO (io), V5 IO (io), V6 IO (io), V7 IO (io), V8 IO (io), V9 IO (io), W1 IO (io), W2 IO (io), W3 GND (power), W4 VCCIO2 (power), W5 VCCIO3 (power), W6 IO (io), W7 IO (io), W8 IO (io), W9 VCCIO3 (power), Y1 IO (io), Y2 IO (io), Y3 IO (io), Y4 IO (io), Y5 GND (power), Y6 IO (io), Y7 IO (io), Y8 IO (io), Y9 GND (power)
part C pins: AA2 GND (power), AA3 IO (io), AA4 IO (io), AA5 IO (io), AA6 VCCIO3 (power), AA7 IO (io), AA8 IO (io), AA9 IO (io), AB1 GND (power), AB2 VCCIO3 (power), AB3 IO (io), AB4 IO (io), AB5 IO (io), AB6 GND (power), AB7 IO (io), AB8 IO (io), AB9 IO (io), B10 IO (io), B11 CLK11, B12 CLK9, B13 IO (io), B14 IO (io), B15 IO (io), B16 IO (io), B17 IO (io), B18 IO (io), B19 IO (io), B20 IO (io), B21 IO (io), B22 IO (io), C10 IO (io), C11 GND (power), C12 GND (power), C13 IO (io), C14 GND (power), C15 IO (io), C16 GND (power), C17 IO (io), C18 GND (power), C19 IO (io), C20 IO (io), C21 IO (io), C22 IO (io), D10 IO (io), D11 VCCIO8 (power), D12 VCCIO7 (power), D13 IO (io), D14 VCCIO7 (power), D15 IO (io), D16 VCCIO7 (power), D17 IO (io), D18 VCCIO7 (power), D19 IO (io), D20 IO (io), D21 IO (io), D22 IO (io), E10 IO (io), E11 IO (io), E12 IO (io), E13 IO (io), E14 IO (io), E15 IO (io), E16 IO (io), E17 VCCD_PLL2 (power), E18 GNDA2 (power), E19 VCCIO6 (power), E20 GND (power), E21 IO (io), E22 IO (io), F10 IO (io), F11 IO (io), F12 IO (io), F13 IO (io), F14 IO (io), F15 IO (io), F16 IO (io), F17 IO (io), F18 VCCA2 (power), F19 IO (io), F20 IO (io), F21 IO (io), F22 IO (io), G10 IO (io), G11 IO (io), G12 IO (io), G13 IO (io), G14 IO (io), G15 IO (io), G16 IO (io), G17 IO (io), G18 IO (io), G19 VCCIO6 (power), G20 GND (power), G21 CLK4, G22 CLK5, H10 IO (io), H11 IO (io)
part D pins: H12 IO (io), H13 IO (io), H14 IO (io), H15 IO (io), H16 IO (io), H17 IO (io), H18 IO (io), H19 IO (io), H20 IO (io), H21 IO (io), H22 IO (io), J10 VCCINT (power), J11 VCCINT (power), J12 VCCINT (power), J13 VCCINT (power), J14 VCCINT (power), J15 IO (io), J16 IO (io), J17 IO (io), J18 IO (io), J19 GND (power), J20 VCCIO6 (power), J21 IO (io), J22 IO (io), K10 GND (power), K11 GND (power), K12 GND (power), K13 GND (power), K14 VCCINT (power), K15 IO (io), K16 IO (io), K17 IO (io), K18 IO (io), K19 IO (io), K20 MSEL3, K21 IO (io), K22 IO (io), L10 GND (power), L11 GND (power), L12 GND (power), L13 GND (power), L14 VCCINT (power), L15 IO (io), L16 IO (io), L17 MSEL2, L18 MSEL1, L19 VCCIO6 (power), L20 GND (power), L21 IO (io), L22 IO (io), M10 GND (power), M11 GND (power), M12 GND (power), M13 GND (power), M14 VCCINT (power), M15 IO (io), M16 IO (io), M17 MSEL0, M18 CONF_DONE, M19 IO (io), M20 IO (io), M21 IO (io), M22 IO (io), N10 GND (power), N11 GND (power), N12 GND (power), N13 GND (power), N14 IO (io), N15 IO (io), N16 IO (io), N17 IO (io), N18 IO (io), N19 IO (io), N20 IO (io), N21 IO (io), N22 IO (io), P10 VCCINT (power), P11 VCCINT (power), P12 VCCINT (power), P13 VCCINT (power), P14 IO (io), P15 IO (io), P16 IO (io), P17 IO (io), P18 VCCIO5 (power), P19 GND (power), P20 IO (io), P21 IO (io), P22 IO (io), R10 IO (io), R11 IO (io), R12 IO (io), R13 IO (io), R14 IO (io), R15 IO (io), R16 IO (io), R17 IO (io)
part E pins: AA10 IO (io), AA11 CLK15, AA12 CLK13, AA13 IO (io), AA14 IO (io), AA15 IO (io), AA16 IO (io), AA17 IO (io), AA18 IO (io), AA19 IO (io), AA20 IO (io), AA21 IO (io), AA22 GND (power), AB10 IO (io), AB11 CLK14, AB12 CLK12, AB13 IO (io), AB14 IO (io), AB15 IO (io), AB16 IO (io), AB17 IO (io), AB18 IO (io), AB19 IO (io), AB20 IO (io), AB21 VCCIO4 (power), AB22 GND (power), R18 IO (io), R19 IO (io), R20 IO (io), R21 IO (io), R22 IO (io), T10 IO (io), T11 IO (io), T12 IO (io), T13 VCCINT (power), T14 IO (io), T15 IO (io), T16 IO (io), T17 IO (io), T18 IO (io), T19 VCCIO5 (power), T20 GND (power), T21 CLK6, T22 CLK7, U10 IO (io), U11 IO (io), U12 IO (io), U13 IO (io), U14 IO (io), U15 IO (io), U16 VCCINT (power), U17 VCCINT (power), U18 VCCA4 (power), U19 IO (io), U20 IO (io), U21 IO (io), U22 IO (io), V10 IO (io), V11 IO (io), V12 IO (io), V13 IO (io), V14 IO (io), V15 IO (io), V16 IO (io), V17 VCCD_PLL4 (power), V18 GNDA4 (power), V19 VCCIO5 (power), V20 GND (power), V21 IO (io), V22 IO (io), W10 IO (io), W11 VCCIO3 (power), W12 VCCIO4 (power), W13 IO (io), W14 IO (io), W15 IO (io), W16 VCCIO4 (power), W17 IO (io), W18 VCCIO4 (power), W19 IO (io), W20 IO (io), W21 IO (io), W22 IO (io), Y10 IO (io), Y11 GND (power), Y12 GND (power), Y13 IO (io), Y14 VCCIO4 (power), Y15 GND (power), Y16 GND (power), Y17 IO (io), Y18 GND (power), Y19 VCCIO5 (power), Y20 GND (power), Y21 IO (io), Y22 IO (io)

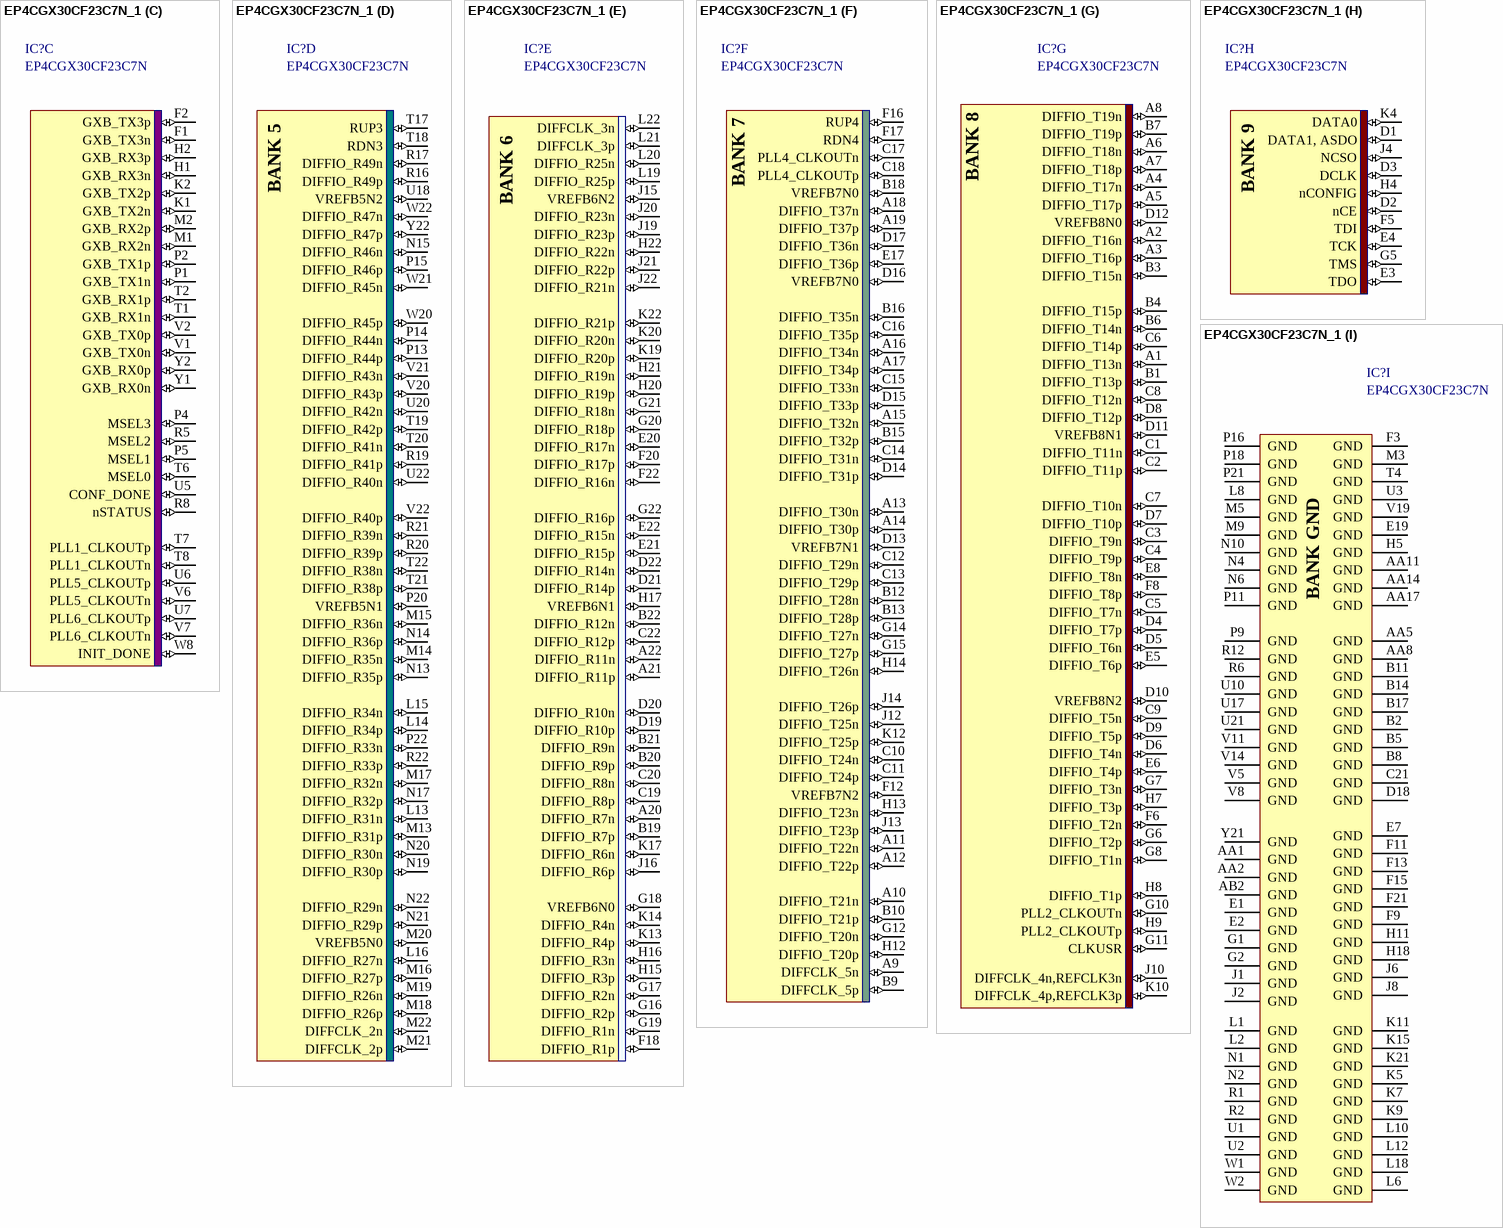
[diagram p46: symbol EP4CGX30CF23C7N_1]

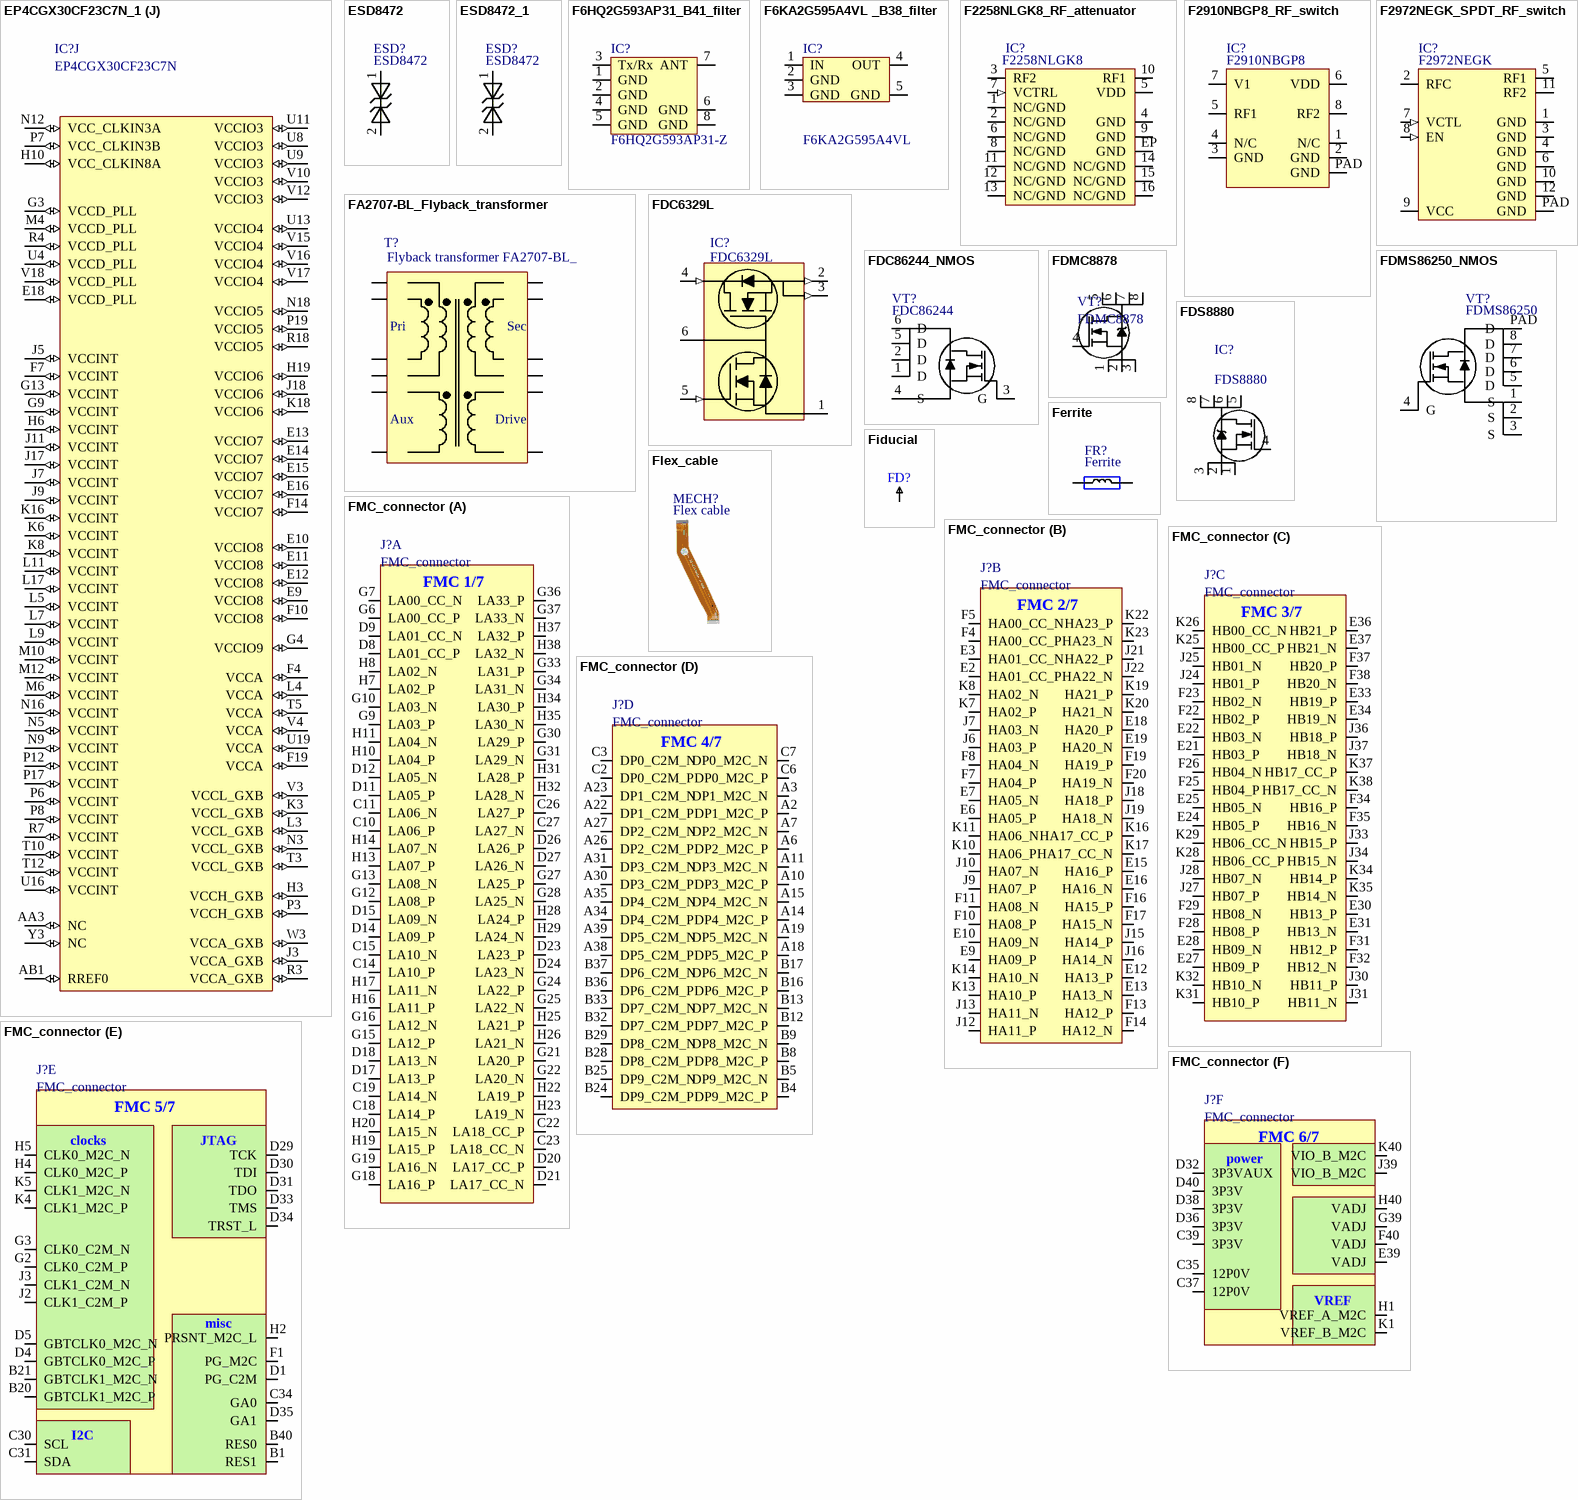
[diagram p47: symbols EP4CGX30CF23C7N_1 to FMC_connector]

## EP4CGX30CF23C7N_1
designator IC?, comment EP4CGX30CF23C7N
Manufacturer: Altera; Voltage - Supply: 1.16 V ~ 1.24 V; Number of I/O: 290; Total RAM Bits: 1105920; Number of Logic Elements/Cells: 29440; Number of LABs/CLBs: 1840; Supplier 1: Digi-Key; Package / Case: 484-BGA; Operating Temperature: 0°C ~ 85°C; Mounting Type: Surface Mount; Number of Gates: -; Supplier Device Package: 484-FBGA (23x23); Category: Integrated Circuits (ICs); Manufacturer Part Number 1: EP4CGX30CF23C7N; RoHS: RoHS Compliant; Supplier Part Number 1: 544-2730-ND
footprint ALTR-FBGA484_A-200 (BGA, 484-Balls, Body 23x23mm, Pitch 1mm)
part A pins: AA12 DIFFCLK_6p (io), AA13 DIFFIO_B21p (io), AA15 DIFFIO_B27p (io), AA16 DIFFIO_B28n (io), AA18 DIFFIO_B31n (io), AA19 DIFFIO_B33p (io), AA20 DIFFIO_B34p (io), AA21 DIFFIO_B35p (io), AA22 PLL3_CLKOUTp (io), AB12 DIFFCLK_6n (io), AB13 DIFFIO_B21n (io), AB14 DIFFIO_B22p (io), AB15 DIFFIO_B22n (io), AB16 DIFFIO_B27n (io), AB17 DIFFIO_B29p (io), AB18 DIFFIO_B29n (io), AB19 DIFFIO_B33n (io), AB20 DIFFIO_B34n (io), AB21 DIFFIO_B35n (io), AB22 PLL3_CLKOUTn (io), R13 DIFFIO_B19p (io), R14 DIFFIO_B24p (io), R15 DIFFIO_B32p (io), T13 DIFFIO_B19n (io), T14 DIFFIO_B24n (io), T15 DIFFIO_B32n (io), T16 VREFB4N0 (io), U14 DIFFIO_B26p (io), U15 DIFFIO_B26n (io), V13 VREFB4N2 (io), W13 DIFFIO_B20p (io), W14 DIFFIO_B23p (io), W15 DIFFIO_B25p (io), W16 VREFB4N1 (io), W17 DIFFIO_B30p (io), W18 DIFFIO_B36p (io), W19 RUP2 (io), Y13 DIFFIO_B20n (io), Y14 DIFFIO_B23n (io), Y15 DIFFIO_B25n (io), Y16 DIFFIO_B28p (io), Y17 DIFFIO_B30n (io), Y18 DIFFIO_B31p (io), Y19 DIFFIO_B36n (io), Y20 RDN2 (io)
part B pins: AA4 DIFFIO_B3p (io), AA6 DIFFIO_B10p (io), AA7 DIFFIO_B11p (io), AA9 DIFFIO_B13n (io), AA10 DIFFIO_B16n (io), AB3 DIFFIO_B3n (io), AB4 DIFFIO_B9p (io), AB5 DIFFIO_B9n (io), AB6 DIFFIO_B10n (io), AB7 DIFFIO_B11n (io), AB8 DIFFIO_B14p (io), AB9 DIFFIO_B14n (io), AB10 DIFFIO_B18p (io), AB11 DIFFIO_B18n (io), M7 REFCLK0p (io), M8 REFCLK1p (io), M11 DIFFCLK_7p,REFCLK2p (io), N7 REFCLK0n (io), N8 REFCLK1n (io), N11 DIFFCLK_7n,REFCLK2n (io), P10 DIFFIO_B4p (io), R9 DIFFIO_B2p (io), R10 DIFFIO_B4n (io), R11 DIFFIO_B6p (io), T9 DIFFIO_B2n (io), T11 DIFFIO_B6n (io), U12 VREFB3N0 (io), V9 VREFB3N2 (io), W4 DIFFIO_B1p (io), W5 DIFFIO_B5p (io), W6 DIFFIO_B7p (io), W7 DIFFIO_B8p (io), W9 DIFFIO_B12p (io), W10 VREFB3N1 (io), W11 DIFFIO_B15p (io), W12 DIFFIO_B17p (io), Y4 DIFFIO_B1n (io), Y5 DIFFIO_B5n (io), Y6 DIFFIO_B7n (io), Y7 DIFFIO_B8n (io), Y8 DIFFIO_B12n (io), Y9 DIFFIO_B13p (io), Y10 DIFFIO_B16p (io), Y11 DIFFIO_B15n (io), Y12 DIFFIO_B17n (io)
part C pins: F1 GXB_TX3n (io), F2 GXB_TX3p (io), H1 GXB_RX3n (io), H2 GXB_RX3p (io), K1 GXB_TX2n (io), K2 GXB_TX2p (io), M1 GXB_RX2n (io), M2 GXB_RX2p (io), P1 GXB_TX1n (io), P2 GXB_TX1p (io), P4 MSEL3 (io), P5 MSEL1 (io), R5 MSEL2 (io), R8 nSTATUS (io), T1 GXB_RX1n (io), T2 GXB_RX1p (io), T6 MSEL0 (io), T7 PLL1_CLKOUTp (io), T8 PLL1_CLKOUTn (io), U5 CONF_DONE (io), U6 PLL5_CLKOUTp (io), U7 PLL6_CLKOUTp (io), V1 GXB_TX0n (io), V2 GXB_TX0p (io), V6 PLL5_CLKOUTn (io), V7 PLL6_CLKOUTn (io), W8 INIT_DONE (io), Y1 GXB_RX0n (io), Y2 GXB_RX0p (io)
part D pins: L13 DIFFIO_R31n (io), L14 DIFFIO_R34p (io), L15 DIFFIO_R34n (io), L16 DIFFIO_R27n (io), M13 DIFFIO_R31p (io), M14 DIFFIO_R35n (io), M15 DIFFIO_R36n (io), M16 DIFFIO_R27p (io), M17 DIFFIO_R32n (io), M18 DIFFIO_R26p (io), M19 DIFFIO_R26n (io), M20 VREFB5N0 (io), M21 DIFFCLK_2p (io), M22 DIFFCLK_2n (io), N13 DIFFIO_R35p (io), N14 DIFFIO_R36p (io), N15 DIFFIO_R46n (io), N17 DIFFIO_R32p (io), N19 DIFFIO_R30p (io), N20 DIFFIO_R30n (io), N21 DIFFIO_R29p (io), N22 DIFFIO_R29n (io), P13 DIFFIO_R44p (io), P14 DIFFIO_R44n (io), P15 DIFFIO_R46p (io), P20 VREFB5N1 (io), P22 DIFFIO_R33n (io), R16 DIFFIO_R49p (io), R17 DIFFIO_R49n (io), R19 DIFFIO_R41p (io), R20 DIFFIO_R39p (io), R21 DIFFIO_R39n (io), R22 DIFFIO_R33p (io), T17 RUP3 (io), T18 RDN3 (io), T19 DIFFIO_R42p (io), T20 DIFFIO_R41n (io), T21 DIFFIO_R38p (io), T22 DIFFIO_R38n (io), U18 VREFB5N2 (io), U20 DIFFIO_R42n (io), U22 DIFFIO_R40n (io), V20 DIFFIO_R43p (io), V21 DIFFIO_R43n (io), V22 DIFFIO_R40p (io), W20 DIFFIO_R45p (io), W21 DIFFIO_R45n (io), W22 DIFFIO_R47n (io), Y22 DIFFIO_R47p (io)
part E pins: A20 DIFFIO_R7n (io), A21 DIFFIO_R11p (io), A22 DIFFIO_R11n (io), B19 DIFFIO_R7p (io), B20 DIFFIO_R9p (io), B21 DIFFIO_R9n (io), B22 DIFFIO_R12n (io), C19 DIFFIO_R8p (io), C20 DIFFIO_R8n (io), C22 DIFFIO_R12p (io), D19 DIFFIO_R10p (io), D20 DIFFIO_R10n (io), D21 DIFFIO_R14p (io), D22 DIFFIO_R14n (io), E20 DIFFIO_R17n (io), E21 DIFFIO_R15p (io), E22 DIFFIO_R15n (io), F18 DIFFIO_R1p (io), F20 DIFFIO_R17p (io), F22 DIFFIO_R16n (io), G16 DIFFIO_R2p (io), G17 DIFFIO_R2n (io), G18 VREFB6N0 (io), G19 DIFFIO_R1n (io), G20 DIFFIO_R18p (io), G21 DIFFIO_R18n (io), G22 DIFFIO_R16p (io), H15 DIFFIO_R3p (io), H16 DIFFIO_R3n (io), H17 VREFB6N1 (io), H20 DIFFIO_R19p (io), H21 DIFFIO_R19n (io), H22 DIFFIO_R22n (io), J15 VREFB6N2 (io), J16 DIFFIO_R6p (io), J19 DIFFIO_R23p (io), J20 DIFFIO_R23n (io), J21 DIFFIO_R22p (io), J22 DIFFIO_R21n (io), K13 DIFFIO_R4p (io), K14 DIFFIO_R4n (io), K17 DIFFIO_R6n (io), K19 DIFFIO_R20p (io), K20 DIFFIO_R20n (io), K22 DIFFIO_R21p (io), L19 DIFFIO_R25p (io), L20 DIFFIO_R25n (io), L21 DIFFCLK_3p (io), L22 DIFFCLK_3n (io)
part F pins: A9 DIFFCLK_5n (io), A10 DIFFIO_T21n (io), A11 DIFFIO_T22n (io), A12 DIFFIO_T22p (io), A13 DIFFIO_T30n (io), A14 DIFFIO_T30p (io), A15 DIFFIO_T32n (io), A16 DIFFIO_T34n (io), A17 DIFFIO_T34p (io), A18 DIFFIO_T37n (io), A19 DIFFIO_T37p (io), B9 DIFFCLK_5p (io), B10 DIFFIO_T21p (io), B12 DIFFIO_T28n (io), B13 DIFFIO_T28p (io), B15 DIFFIO_T32p (io), B16 DIFFIO_T35n (io), B18 VREFB7N0 (io), C10 DIFFIO_T24n (io), C11 DIFFIO_T24p (io), C12 DIFFIO_T29n (io), C13 DIFFIO_T29p (io), C14 DIFFIO_T31n (io), C15 DIFFIO_T33n (io), C16 DIFFIO_T35p (io), C17 PLL4_CLKOUTn (io), C18 PLL4_CLKOUTp (io), D13 VREFB7N1 (io), D14 DIFFIO_T31p (io), D15 DIFFIO_T33p (io), D16 VREFB7N0 (io), D17 DIFFIO_T36n (io), E17 DIFFIO_T36p (io), F12 VREFB7N2 (io), F16 RUP4 (io), F17 RDN4 (io), G12 DIFFIO_T20n (io), G14 DIFFIO_T27n (io), G15 DIFFIO_T27p (io), H12 DIFFIO_T20p (io), H13 DIFFIO_T23n (io), H14 DIFFIO_T26n (io), J12 DIFFIO_T25n (io), J13 DIFFIO_T23p (io), J14 DIFFIO_T26p (io), K12 DIFFIO_T25p (io)
part G pins: A1 DIFFIO_T13n (io), A2 DIFFIO_T16n (io), A3 DIFFIO_T16p (io), A4 DIFFIO_T17n (io), A5 DIFFIO_T17p (io), A6 DIFFIO_T18n (io), A7 DIFFIO_T18p (io), A8 DIFFIO_T19n (io), B1 DIFFIO_T13p (io), B3 DIFFIO_T15n (io), B4 DIFFIO_T15p (io), B6 DIFFIO_T14n (io), B7 DIFFIO_T19p (io), C1 DIFFIO_T11n (io), C2 DIFFIO_T11p (io), C3 DIFFIO_T9n (io), C4 DIFFIO_T9p (io), C5 DIFFIO_T7n (io), C6 DIFFIO_T14p (io), C7 DIFFIO_T10n (io), C8 DIFFIO_T12n (io), C9 DIFFIO_T5n (io), D4 DIFFIO_T7p (io), D5 DIFFIO_T6n (io), D6 DIFFIO_T4n (io), D7 DIFFIO_T10p (io), D8 DIFFIO_T12p (io), D9 DIFFIO_T5p (io), D10 VREFB8N2 (io), D11 VREFB8N1 (io), D12 VREFB8N0 (io), E5 DIFFIO_T6p (io), E6 DIFFIO_T4p (io), E8 DIFFIO_T8n (io), F6 DIFFIO_T2n (io), F8 DIFFIO_T8p (io), G6 DIFFIO_T2p (io), G7 DIFFIO_T3n (io), G8 DIFFIO_T1n (io), G10 PLL2_CLKOUTn (io), G11 CLKUSR (io), H7 DIFFIO_T3p (io), H8 DIFFIO_T1p (io), H9 PLL2_CLKOUTp (io), J10 DIFFCLK_4n,REFCLK3n (io), K10 DIFFCLK_4p,REFCLK3p (io)
part H pins: D1 DATA1, ASDO (io), D2 nCE (io), D3 DCLK (io), E3 TDO (io), E4 TCK (io), F5 TDI (io), G5 TMS (io), H4 nCONFIG (io), J4 NCSO (io), K4 DATA0 (io)
part I pins: AA1 GND, AA2 GND, AA5 GND, AA8 GND, AA11 GND, AA14 GND, AA17 GND, AB2 GND, B2 GND, B5 GND, B8 GND, B11 GND, B14 GND, B17 GND, C21 GND, D18 GND, E1 GND, E2 GND, E7 GND, E19 GND, F3 GND, F9 GND, F11 GND, F13 GND, F15 GND, F21 GND, G1 GND, G2 GND, H5 GND, H11 GND, H18 GND, J1 GND, J2 GND, J6 GND, J8 GND, K5 GND, K7 GND, K9 GND, K11 GND, K15 GND, K21 GND, L1 GND, L2 GND, L6 GND, L8 GND, L10 GND, L12 GND, L18 GND, M3 GND, M5 GND, M9 GND, N1 GND, N2 GND, N4 GND, N6 GND, N10 GND, P9 GND, P11 GND, P16 GND, P18 GND, P21 GND, R1 GND, R2 GND, R6 GND, R12 GND, T4 GND, U1 GND, U2 GND, U3 GND, U10 GND, U17 GND, U21 GND, V5 GND, V8 GND, V11 GND, V14 GND, V19 GND, W1 GND, W2 GND, Y21 GND
part J pins: AA3 NC (io), AB1 RREF0 (io), E9 VCCIO8 (io), E10 VCCIO8 (io), E11 VCCIO8 (io), E12 VCCIO8 (io), E13 VCCIO7 (io), E14 VCCIO7 (io), E15 VCCIO7 (io), E16 VCCIO7 (io), E18 VCCD_PLL (io), F4 VCCA (io), F7 VCCINT (io), F10 VCCIO8 (io), F14 VCCIO7 (io), F19 VCCA (io), G3 VCCD_PLL (io), G4 VCCIO9 (io), G9 VCCINT (io), G13 VCCINT (io), H3 VCCH_GXB (io), H6 VCCINT (io), H10 VCC_CLKIN8A (io), H19 VCCIO6 (io), J3 VCCA_GXB (io), J5 VCCINT (io), J7 VCCINT (io), J9 VCCINT (io), J11 VCCINT (io), J17 VCCINT (io), J18 VCCIO6 (io), K3 VCCL_GXB (io), K6 VCCINT (io), K8 VCCINT (io), K16 VCCINT (io), K18 VCCIO6 (io), L3 VCCL_GXB (io), L4 VCCA (io), L5 VCCINT (io), L7 VCCINT (io), L9 VCCINT (io), L11 VCCINT (io), L17 VCCINT (io), M4 VCCD_PLL (io), M6 VCCINT (io), M10 VCCINT (io), M12 VCCINT (io), N3 VCCL_GXB (io), N5 VCCINT (io), N9 VCCINT (io), N12 VCC_CLKIN3A (io), N16 VCCINT (io), N18 VCCIO5 (io), P3 VCCH_GXB (io), P6 VCCINT (io), P7 VCC_CLKIN3B (io), P8 VCCINT (io), P12 VCCINT (io), P17 VCCINT (io), P19 VCCIO5 (io), R3 VCCA_GXB (io), R4 VCCD_PLL (io), R7 VCCINT (io), R18 VCCIO5 (io), T3 VCCL_GXB (io), T5 VCCA (io), T10 VCCINT (io), T12 VCCINT (io), U4 VCCD_PLL (io), U8 VCCIO3 (io), U9 VCCIO3 (io), U11 VCCIO3 (io), U13 VCCIO4 (io), U16 VCCINT (io), U19 VCCA (io), V3 VCCL_GXB (io), V4 VCCA (io), V10 VCCIO3 (io), V12 VCCIO3 (io), V15 VCCIO4 (io), V16 VCCIO4 (io), V17 VCCIO4 (io), V18 VCCD_PLL (io), W3 VCCA_GXB (io), Y3 NC (io)
part A text: BANK 4
part B text: BANK 3; BANKS 3A, 3B
part D text: BANK 5
part E text: BANK 6
part F text: BANK 7
part G text: BANK 8
part H text: BANK 9
part I text: BANK GND

## ESD8472
designator ESD?
Manufacturer: ON Semiconductor; Manufacturer Part Number: ESD8472MUT5G; Part Description: TVS DIODE 5.3VWM 14VC X3DFN2; Voltage - Reverse Standoff (Typ): 5.3V (Max); Voltage - Breakdown (Min): 7V; Voltage - Clamping (Max) @ Ipp: 14V; Current - Peak Pulse (10/1000µs): 3A (8/20µs); Power Line Protection: No; Capacitance @ Frequency: 0.2pF @ 1MHz; Supplier 1: Digi-Key; RoHS: RoHS Compliant; Category: Circuit Protection; Stock 1: 2295; Pricing 1: 1=0.39, 10=0.315, 100=0.2142, 500=0.16068, 1000=0.12051 (USD); Packaging: Cut Tape (CT); Part Status: Active; Type: Zener; Power - Peak Pulse: -; Applications: Automotive, RF Antenna; Operating Temperature: -55°C ~ 150°C (TJ); Mounting Type: Surface Mount; Package / Case: 2-XFDFN; Supplier Device Package: 2-X3DFN (0.62x0.32); ComponentLink1URL: http://www.onsemi.com/pub/Collateral/ESD8472-D.PDF; ComponentLink1Description: http://www.onsemi.com/pub/Collateral/ESD8472-D.PDF; Supplier Part Number 1: ESD8472MUT5GOSCT-ND
footprint ESD8472_X3DFN2
pins: 1, 2

## ESD8472_1
designator ESD?, comment ESD8472
Manufacturer: ON Semiconductor; Manufacturer Part Number: ESD8472MUT5G; Part Description: TVS DIODE 5.3VWM 14VC X3DFN2; Voltage - Reverse Standoff (Typ): 5.3V (Max); Voltage - Breakdown (Min): 7V; Voltage - Clamping (Max) @ Ipp: 14V; Current - Peak Pulse (10/1000µs): 3A (8/20µs); Power Line Protection: No; Capacitance @ Frequency: 0.2pF @ 1MHz; Supplier 1: Digi-Key; RoHS: RoHS Compliant; Category: Circuit Protection; Stock 1: 2295; Pricing 1: 1=0.39, 10=0.315, 100=0.2142, 500=0.16068, 1000=0.12051 (USD); Packaging: Cut Tape (CT); Part Status: Active; Type: Zener; Power - Peak Pulse: -; Applications: Automotive, RF Antenna; Operating Temperature: -55°C ~ 150°C (TJ); Mounting Type: Surface Mount; Package / Case: 2-XFDFN; Supplier Device Package: 2-X3DFN (0.62x0.32); ComponentLink1URL: http://www.onsemi.com/pub/Collateral/ESD8472-D.PDF; ComponentLink1Description: http://www.onsemi.com/pub/Collateral/ESD8472-D.PDF; Supplier Part Number 1: ESD8472MUT5GOSCT-ND
footprint ESD8472_X3DFN2
pins: 1, 2

## F6HQ2G593AP31_B41_filter
designator IC?, comment F6HQ2G593AP31-Z
Part Description: SAW DUPLEXER, LTE, BAND 41; Manufacturer: Taiyo Yuden; Manufacturer Part Number 1: F6HQ2G593AP31-Z; Supplier Part Number 1: 963-F6HQ2G593AP31-Z; Supplier 1: Mouser; Value: F6HQ2G593AP31-Z
footprint SAW_filter_duplexer_TAIYO_YUDEN_1p8x1p4_2p0x1p6 (Duplexer Taiyo Yuden unified 1.8 mm x 1.4 mm size and 2 mm x 1.6 mm packages)
pins: 1 GND, 2 GND, 3 Tx/Rx (io), 4 GND, 5 GND, 6 GND, 7 ANT (io), 8 GND

## F6KA2G595A4VL _B38_filter
designator IC?, comment F6KA2G595A4VL
Part Description: SAW DUPLEXER, LTE, BAND 38; Manufacturer: Taiyo Yuden; Manufacturer Part Number 1: F6KA2G595A4VL-Z; Supplier Part Number 1: 963-F6KA2G595A4VL-Z; Supplier 1: Mouser; Value: F6KA2G595A4VL
footprint F6KA2G595A4VL
pins: 1 IN (io), 2 GND, 3 GND, 4 OUT (io), 5 GND

## F2258NLGK8_RF_attenuator
designator IC?, comment F2258NLGK8
Part Description: Attenuators RF Attenuator 1.4dB 50 to 6000 MHz; Manufacturer: IDT; Supplier 1: Mouser; Supplier Part Number 1: 972-F2258NLGK8; Manufacturer Part Number 1: F2258NLGK8; Stock 1: 0; RoHS: Yes; Number of Pins: 16; Length: 3mm; Width: 3mm; Thickness: 1mm; Lead Free: Lead Free; RoHS Compliant: Yes; ComponentLink1URL: http://www.mouser.com/ds/2/464/IDT_F2258_DST_20170130-883648.pdf?src-supplier=Mouser; ComponentLink1Description: http://www.mouser.com/ds/2/464/IDT_F2258_DST_20170130-883648.pdf?src-supplier=Mouser
footprint F2258NLGK8 _QFN3x3_16
pins: 1 NC/GND, 2 NC/GND, 3 RF2 (io), 4 GND, 5 VDD (power), 6 NC/GND, 7 VCTRL (in), 8 NC/GND, 9 GND, 10 RF1 (io), 11 NC/GND, 12 NC/GND, 13 NC/GND, 14 NC/GND, 15 NC/GND, 16 NC/GND, EP GND

## F2910NBGP8_RF_switch
designator IC?, comment F2910NBGP8
Manufacturer: Renesas; Part Description: Constant Impedance K|z| SPST RF Switch 30 MHz to 8000 MHz; 1 dB Compression Point: 34dBm; Characteristic Impedance: 50R; Input Power-Max (CW): 23dBm; Insertion Loss-Max: 1dB; Isolation-Min: 30dB; Number of Functions: 1; On Time-Nom: 265us; Operating Frequency-Max: 8MHz; Operating Frequency-Min: 30kHz; Port Termination: ABSORPTIVE; Power Supplies: 3.3V; RF/Microwave Device Type: SPST; Max Supply Current: 374uA; VSWR-Max: 3.3; Insertion Loss: 0.55dB; Operating Supply Current: 190uA; Supplier 1: Mouser; Manufacturer Part Number 1: F2910NBGP8; Stock 1: 8315; Pricing 1: 1=1,41, 10=1,15, 50=1,15, 100=1,07, 1000=1,07, 10000=1,07 (USD); RoHS: Yes; Mount: Surface Mount; Number of Pins: 8; Terminal Finish: Tin; Min Operating Temperature: -55°C; Max Operating Temperature: 105°C; JESD-609 Code: e3; Construction: COMPONENT; Impedance: 50R; Height: 1mm; RoHS Compliant: Yes; ComponentLink1URL: https://datasheet.ciiva.com/pdfs/VipMasterIC/IC/RNCC/RNCC-S-A0012825527/RNCC-S-A0013023509-1.pdf?src-supplier=IHS+Markit; ComponentLink1Description: https://datasheet.ciiva.com/pdfs/VipMasterIC/IC/RNCC/RNCC-S-A0012825527/RNCC-S-A0013023509-1.pdf?src-supplier=IHS+Markit; ComponentLink2URL: https://datasheet.octopart.com/F2910NBGP8-Renesas-datasheet-67696481.pdf?src-supplier=RFMW; ComponentLink2Description: https://datasheet.octopart.com/F2910NBGP8-Renesas-datasheet-67696481.pdf?src-supplier=RFMW; Supplier Part Number 1: 972-F2910NBGP8
footprint F2910NBGP8_SON9P50 (Footprint not found)
pins: 1 N/C, 2 GND, 3 GND, 4 N/C, 5 RF1 (io), 6 VDD, 7 V1, 8 RF2 (io), PAD GND

## F2972NEGK_SPDT_RF_switch
designator IC?, comment F2972NEGK
Part Description: RF Switch IC General Purpose SPDT 50Ohm 12-VFQFPN (2x2); Manufacturer: Renesas; Insertion Loss: 0.23dB; Impedance: 75R; RF/Microwave Device Type: SPDT; Operating Supply Current: 80uA; Pitch: 500um; Supplier 1: Digikey; Supplier Part Number 1: 800-3764-ND; Manufacturer Part Number 1: F2972NEGK; Stock 1: 1955; Pricing 1: 1=2,62, 10=2,257, 25=2,1316, 100=1,9596, 250=1,8564, 500=1,78342 (USD); RoHS: Yes; Mount: Surface Mount; Number of Pins: 12; Terminal Finish: Tin; Max Operating Temperature: 105°C; Packaging: Cut Tape; JESD-609 Code: e3; Package Quantity: 3000; Length: 2mm; Width: 2mm; Height: 0.55mm; Thickness: 500um; RoHS Compliant: Yes; Lead Free: Lead Free; Reach SVHC Compliant: Yes; ComponentLink1URL: https://datasheet.ciiva.com/pdfs/VipMasterIC/IC/RNCC/RNCC-S-A0012905098/RNCC-S-A0013316118-1.pdf?src-supplier=IHS+Markit; ComponentLink1Description: https://datasheet.ciiva.com/pdfs/VipMasterIC/IC/RNCC/RNCC-S-A0012905098/RNCC-S-A0013316118-1.pdf?src-supplier=IHS+Markit; ComponentLink2URL: https://www.idt.com/document/dst/f2972-datasheet?src-supplier=Digikey; ComponentLink2Description: https://www.idt.com/document/dst/f2972-datasheet?src-supplier=Digikey
footprint F2972NEGK_SPDT_RF_switch_12-TQFN
pins: 1 GND, 2 RFC (io), 3 GND, 4 GND, 5 RF1 (io), 6 GND, 7 VCTL (in), 8 EN (in), 9 VCC (power), 10 GND, 11 RF2 (io), 12 GND, PAD GND

## FA2707-BL_Flyback_transformer
designator T?, comment Flyback transformer FA2707-BL_
Manufacturer: Coilcraft; Manufacturer Part Number 1: FA2707-BLD; Part Description: Audio Transformers / Signal Transformers FA2707 Flyback For STMicro PM8800; Supplier 1: Mouser; Stock 1: 0; Packaging: Tape and Reel; Package Quantity: 200; Lead Free: Contains Lead; Supplier Part Number 1: 994-FA2707-BLD
footprint FA2707-BL_Flyback_transformer
pins: 1, 2, 3, 4, 5, 6, 7, 8, 9, 10, 11, 12
text: Pri; Sec; Aux; Drive

## FDC6329L
designator IC?
Power Switch ICs - Power Distribution SSOT-6 LOAD SW 8V; Manufacturer: On Semiconductors; Part Description: Power Switch ICs - Power Distribution SSOT-6 LOAD SW 8V; Manufacturer Part Number 1: FDC6329L; Supplier 1: Mouser; Supplier Part Number 1: 512-FDC6329L
footprint FDC6329L_SUPERSOT_6
pins: 1 RGND (power), 2 VOUT (out), 3 VOUT (out), 4 VIN (in), 5 EN (in), 6 RC (power)

## FDC86244_NMOS
designator VT?, comment FDC86244
Part Desription: N-Channel 150V 2.3A (Ta) 1.6W (Ta) Surface Mount SuperSOT™-6; Manufacturer: ON Semiconductor / Fairchild; Rise Time: 1.4ns; Rds On Max: 144mR; Input Capacitance: 345pF; Continuous Drain Current (ID): 2.3A; Drain to Source Voltage (Vdss): 150V; Max Power Dissipation: 800mW; Drain to Source Resistance: 20mR; Power Dissipation: 1.6W; Turn-Off Delay Time: 10ns; Turn-On Delay Time: 4.7ns; Fall Time: 3.1ns; Number of Elements: 1; Threshold Voltage: 2.5V; Element Configuration: Single; Gate to Source Voltage (Vgs): 20V; ComponentLink1URL: http://www.st.com/web/en/resource/technical/document/datasheet/CD00103832.pdf; ComponentLink1Description: http://www.st.com/web/en/resource/technical/document/datasheet/CD00103832.pdf; ComponentLink2URL: http://www.st.com/content/ccc/resource/technical/document/datasheet/00/75/48/c3/62/90/4a/32/CD00103832.pdf/files/CD00103832.pdf/jcr:content/translations/en.CD00103832.pdf; ComponentLink2Description: http://www.st.com/content/ccc/resource/technical/document/datasheet/00/75/48/c3/62/90/4a/32/CD00103832.pdf/files/CD00103832.pdf/jcr:content/translations/en.CD00103832.pdf; ComponentLink3URL: http://www.mouser.com/ds/2/389/CD00103832-114014.pdf; ComponentLink3Description: http://www.mouser.com/ds/2/389/CD00103832-114014.pdf; ComponentLink4URL: http://www.ti.com/general/docs/lit/getliterature.tsp?genericPartNumber=CSD17527Q5A&&fileType=pdf; ComponentLink4Description: http://www.ti.com/general/docs/lit/getliterature.tsp?genericPartNumber=CSD17527Q5A&&fileType=pdf; ComponentLink5URL: http://www.ti.com/lit/ds/slps331a/slps331a.pdf; ComponentLink5Description: http://www.ti.com/lit/ds/slps331a/slps331a.pdf; ComponentLink6URL: http://www.ti.com/lit/ds/symlink/csd17527q5a.pdf; ComponentLink6Description: http://www.ti.com/lit/ds/symlink/csd17527q5a.pdf; ComponentLink7URL: http://www.ti.com/litv/slps331a; ComponentLink7Description: http://www.ti.com/litv/slps331a; Supplier 1: Digi-Key; Manufacturer Part Number 1: FDC86244; RoHS: Yes; Pricing 1: 1 = 1,30000, 10 = 1,15100, 100 = 0,90990, 500 = 0,70564, 1000 = 0,55709 (USD); Mount: Surface Mount; Case/Package: SOT-23-6; Number of Pins: 6; Weight: 0.036g; Contact Plating: Matte,Tin; Min Operating Temperature: -55°C; Max Operating Temperature: 150°C; Packaging: Tape and Reel; Package Quantity: 3000; Drain to Source Breakdown Voltage: 150V; Length: 3mm; Height: 1mm; Width: 1.7mm; Radiation Hardening: No; REACH SVHC: No SVHC; Lead Free: Lead Free; ComponentLink8URL: https://www.fairchildsemi.com/datasheets/FD/FDC86244.pdf; ComponentLink8Description: https://www.fairchildsemi.com/datasheets/FD/FDC86244.pdf; ComponentLink9URL: http://www.fairchildsemi.com/ds/FD/FDC86244.pdf; ComponentLink9Description: http://www.fairchildsemi.com/ds/FD/FDC86244.pdf; ComponentLink10URL: http://www.mouser.com/ds/2/149/FDC86244-92611.pdf; ComponentLink10Description: http://www.mouser.com/ds/2/149/FDC86244-92611.pdf; Supplier Part Number 1: FDC86244DKR-ND
footprint SOT23-6
pins: 1 D, 2 D, 3 G, 4 S, 5 D, 6 D

## FDMC8878
designator VT?
Drain to Source Voltage (Vdss): 30V; Vgs(th) (Max) @ Id: 3V @ 250µA; Input Capacitance (Ciss) @ Vds: 1230pF @ 15V; Power - Max: 2.1W; Gate Charge (Qg) @ Vgs: 26nC @ 10V; Current - Continuous Drain (Id) @ 25°C: 9.6A (Ta), 16.5A (Tc); Rds On (Max) @ Id, Vgs: 14 mOhm @ 9.6A, 10V; Supplier 1: Digi-Key; Category: Discrete Semiconductor Products; Manufacturer Part Number: FDMC8878; Mounting Type: Surface Mount; Supplier Device Package: 8-Power33 (3x3); Package / Case: 8-PowerVDFN; Supplier Part Number 1: FDMC8878CT-ND
footprint FDMC8878 (SON, 8-Leads, Body 3,30x3,30mm, Pitch 0,65mm, Thermal Pad 1,20x0,75mm, IPC Medium Density)
pins: 1 S, 2 S, 3 S, 4 G, 5 D, 6 D, 7 D, 8 D

## FDMS86250_NMOS
designator VT?, comment FDMS86250
MOSFET FET 150V 25.0 MOHM PQFN56; Manufacturer: ON Semiconductor / Fairchild; Continuous Drain Current (ID): 6.7A; Max Power Dissipation: 2.5W; Drain to Source Resistance: 33mR; Power Dissipation: 96W; Number of Elements: 1; Turn-On Delay Time: 14ns; Turn-Off Delay Time: 22ns; Fall Time: 4.2ns; Rds On Max: 25mR; Input Capacitance: 2.33nF; Rise Time: 4.3ns; Element Configuration: Single; Gate to Source Voltage (Vgs): 20V; Supplier 1: Mouser; Stock 1: 2961; Pricing 1: 1=2,77000, 10=2,50000, 50=2,36000, 100=2,01000, 1000=1,37000, 10000=1,32000 (USD); RoHS: Yes; Mount: Surface Mount; Number of Pins: 8; Weight: 0.0681g; Min Operating Temperature: -55°C; Max Operating Temperature: 150°C; Drain to Source Voltage (Vdss): 150V; Drain to Source Breakdown Voltage: 150V; Package Quantity: 3000; Packaging: Tape and Reel; Length: 5mm; Width: 6mm; Height: 1.05mm; Radiation Hardening: No; Lead Free: Lead Free; ComponentLink1URL: https://datasheet.ciiva.com/15043/fdms86250-15043510.pdf?src-supplier=Digi-Key; ComponentLink1Description: https://datasheet.ciiva.com/15043/fdms86250-15043510.pdf?src-supplier=Digi-Key; ComponentLink2URL: https://datasheet.ciiva.com/4440/fdms86250-103923-4440671.pdf?src-supplier=Mouser; ComponentLink2Description: https://datasheet.ciiva.com/4440/fdms86250-103923-4440671.pdf?src-supplier=Mouser; ComponentLink3URL: https://datasheet.ciiva.com/15043/fdms86250-15043511.pdf?src-supplier=Digi-Key; ComponentLink3Description: https://datasheet.ciiva.com/15043/fdms86250-15043511.pdf?src-supplier=Digi-Key; ComponentLink4URL: https://datasheet.ciiva.com/15043/fdms86250-15043512.pdf?src-supplier=Digi-Key; ComponentLink4Description: https://datasheet.ciiva.com/15043/fdms86250-15043512.pdf?src-supplier=Digi-Key; Supplier Part Number 1: 512-FDMS86250; Part Description: MOSFET FET 150V 25.0 MOHM PQFN56; Manufacturer Part Number: FDMS86250
footprint FDMS86250_NMOS_POWER56
pins: 1 S, 2 S, 3 S, 4 G, 5 D, 6 D, 7 D, 8 D, PAD D

## FDS8880
designator IC?
Manufacturer: Fairchild Semiconductor; Input Capacitance (Ciss) @ Vds: 1235pF @ 15V; Power - Max: 2.5W; FET Feature: Standard; Drain to Source Voltage (Vdss): 30V; Rds On (Max) @ Id, Vgs: 10 mOhm @ 11.6A, 10V; Vgs(th) (Max) @ Id: 2.5V @ 250µA; Gate Charge (Qg) @ Vgs: 30nC @ 10V; Current - Continuous Drain (Id) @ 25°C: 11.6A (Ta); FET Type: MOSFET N-Channel, Metal Oxide; Supplier 1: Digi-Key; Package / Case: 8-SOIC (0.154", 3.90mm Width); Supplier Device Package: 8-SOIC N; Mounting Type: Surface Mount; Manufacturer Part Number 1: FDS8880; RoHS: RoHS Compliant; Packaging: Digi-Reel®; Category: Discrete Semiconductor Products; Supplier Part Number 1: FDS8880DKR-ND
footprint SO-8_N (SOIC, 8-Leads, Body 4.9x3.9mm, Pitch 1.27mm, IPC Medium Density)
pins: 1 S, 2 S, 3 S, 4 G, 5 D, 6 D, 7 D, 8 D

## Ferrite
designator FR?
footprint RES0402 (Chip Resistor, Body 1.0x0.5mm, EIA 0402, IPC Medium Density)
pins: 1, 2

## Fiducial
designator FD?  (value not drawn)
footprint Fiducial
pins: 1

## Flex_cable
designator MECH?, comment Flex cable  (mechanical)

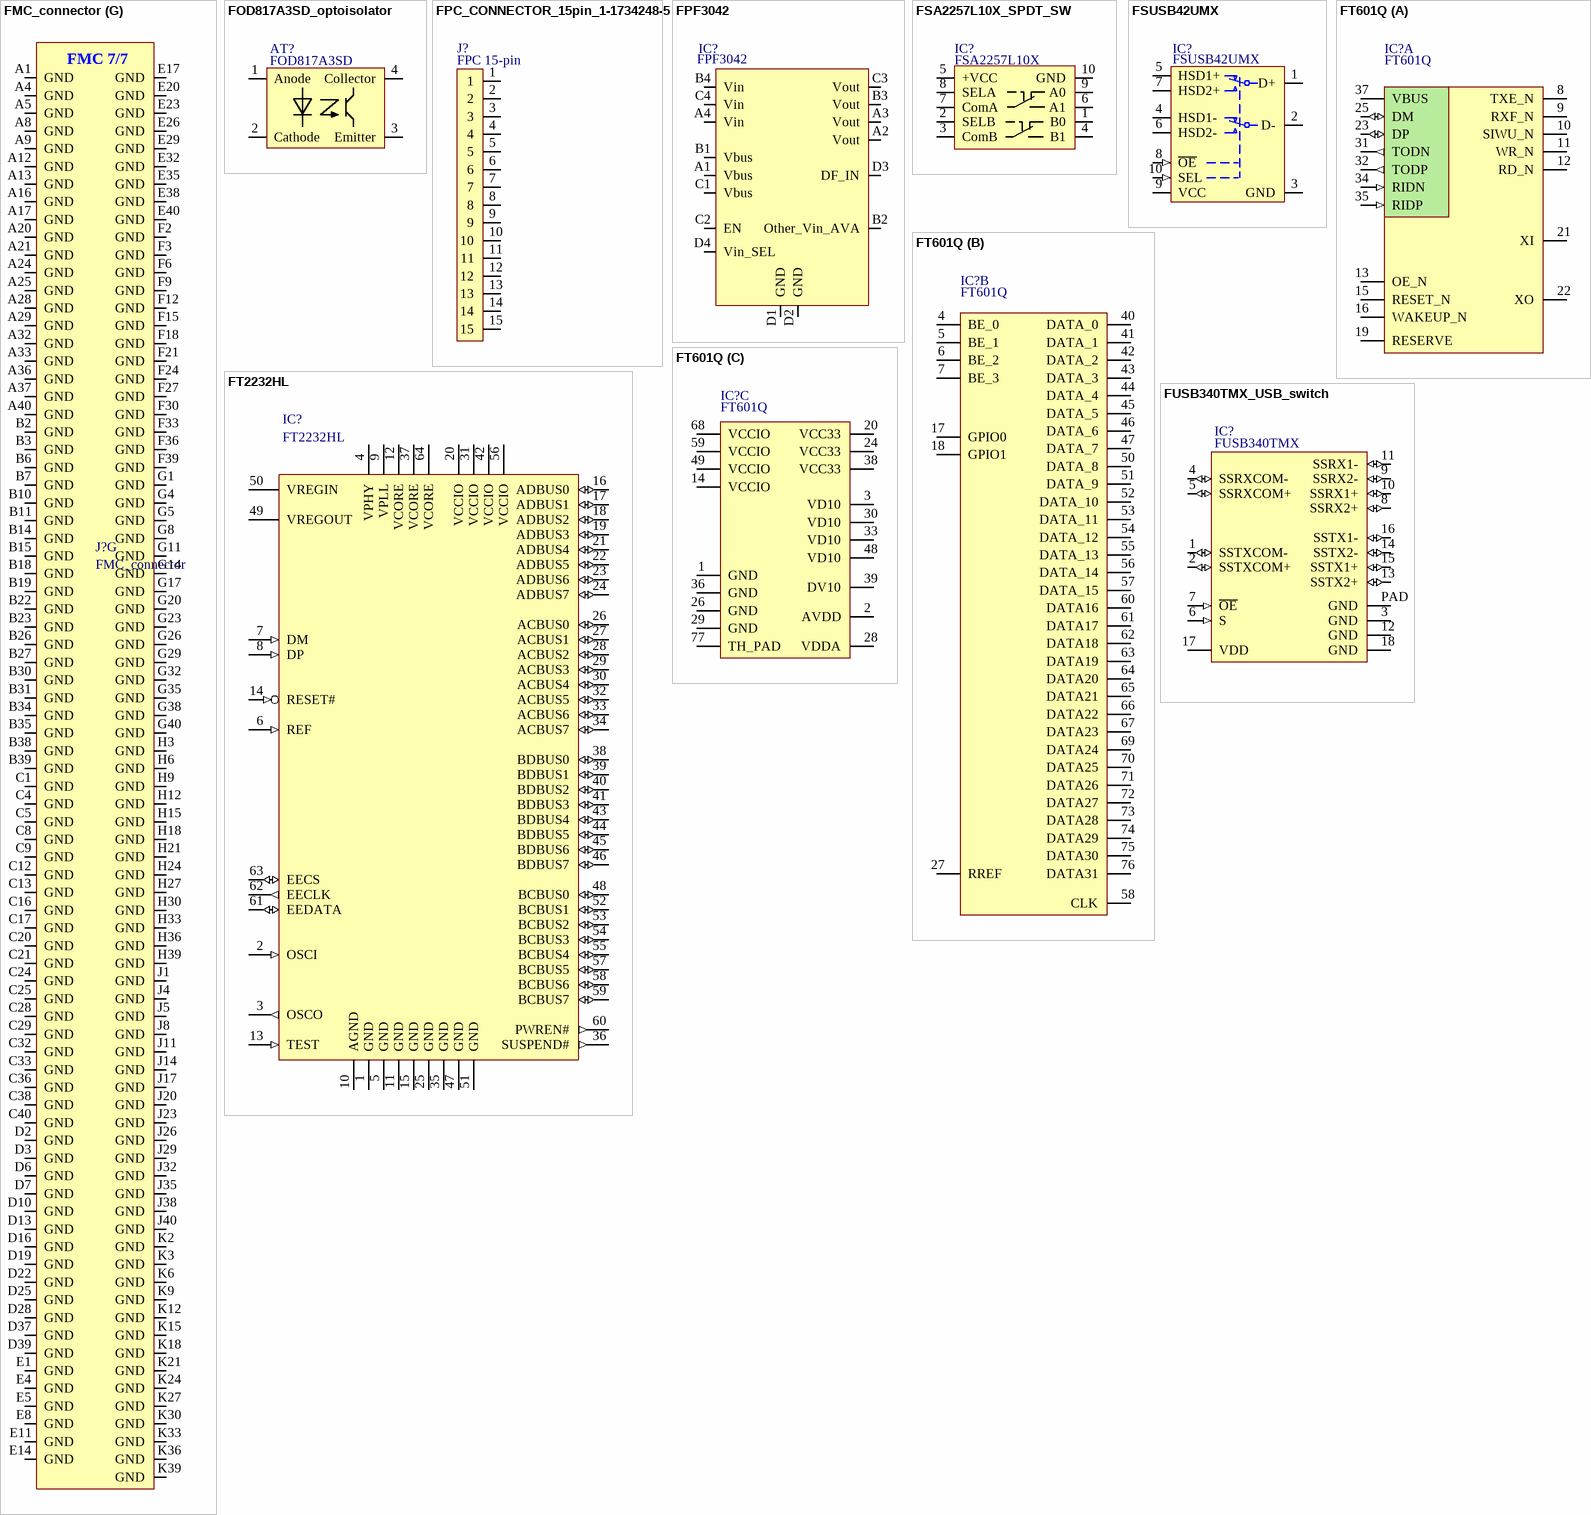
[diagram p48: symbols FMC_connector to FUSB340TMX_USB_switch]